# Altium integrated library Lattice ORCA Series 3.IntLib: 93 symbols (part 8 of 14)
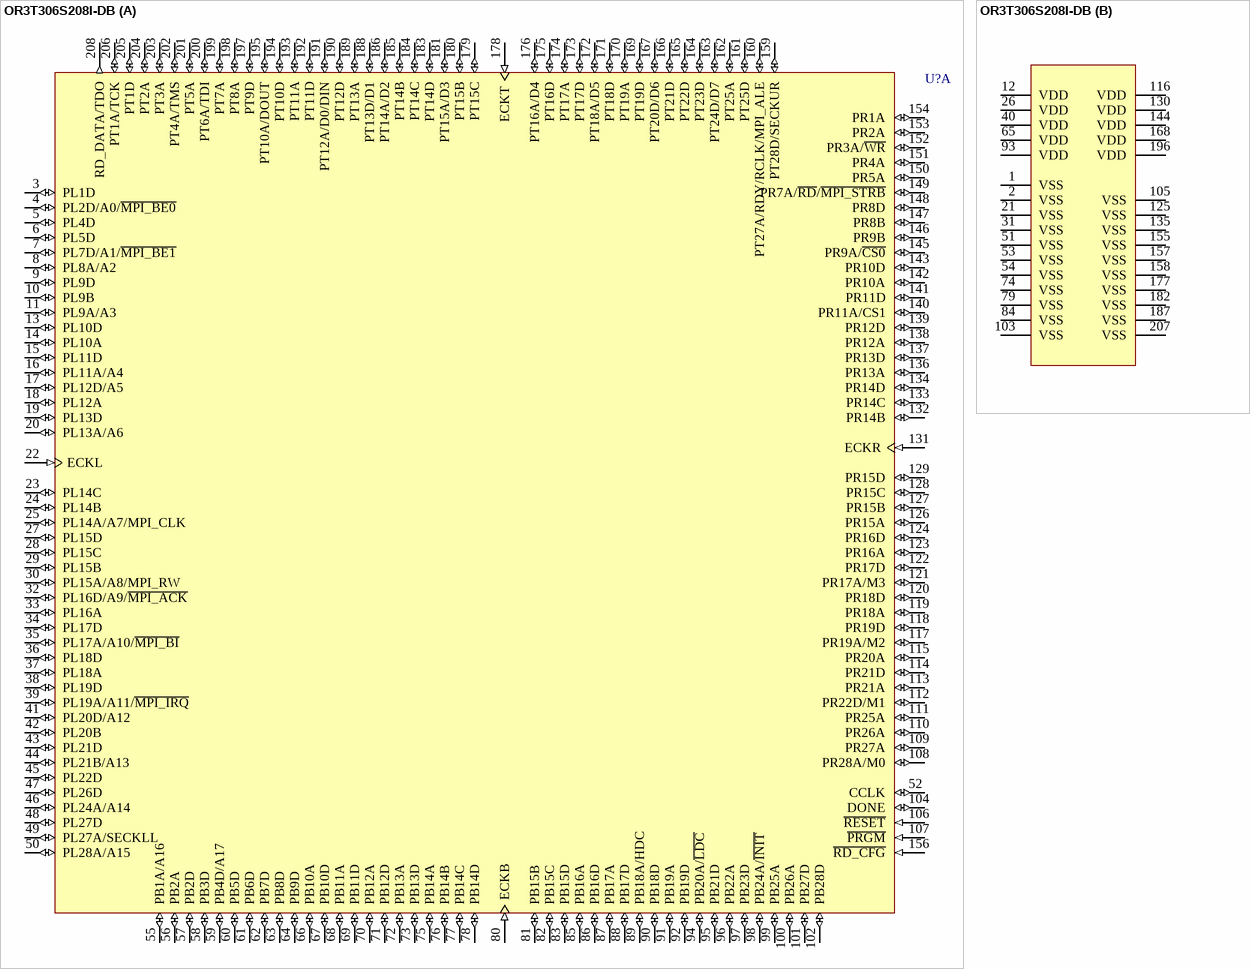
[diagram p143: symbol OR3T306S208I-DB]

## OR3T306S208I-DB
designator U?
ORCA Series 3T FPGA: 3.3 V, Industrial Grade, 228 I/Os.; Published: 21-May-2003; LatestRevisionDate: 13-Apr-2006; LatestRevisionNote: IPC-7351 Footprint Added.; DatasheetVersion: Dec-2002; PackageVersion: pkg_32, Aug-2005; PackageReference: PQFP208; Publisher: Altium Limited; PackageDescription: 208-Pin Plastic Quad Flat Pack (PQFP208); Code_JEDEC: MO-143-FAI; ComponentLink1Description: Manufacturer Link; ComponentLink1URL: http://www.latticesemi.com/products/fpga/orca/orca3/index.cfm; ComponentLink2Description: Datasheet; ComponentLink2URL: http://www.latticesemi.com/account/_download.cfm?AMID=3974; ComponentLink3Description: Lattice Login; ComponentLink3URL: http://www.latticesemi.com/account/login.cfm
footprint PQFP208_N (Shrink QFP, 208-Leads, Body 28x28mm, Pitch 0.5mm, IPC Medium Density)
footprint PQFP208_L (Shrink QFP, 208-Leads, Body 28x28mm, Pitch 0.5mm, IPC High Density)
footprint PQFP208_M (Shrink QFP, 208-Leads, Body 28x28mm, Pitch 0.5mm, IPC Low Density)
3D model OR3T30-PQFP208 (208-Pin Plastic Quad Flat Pack (PQFP208))
part A pins: 3 PL1D (io), 4 PL2D/A0/~{MPI_BE0} (io), 5 PL4D (io), 6 PL5D (io), 7 PL7D/A1/~{MPI_BE1} (io), 8 PL8A/A2 (io), 9 PL9D (io), 10 PL9B (io), 11 PL9A/A3 (io), 13 PL10D (io), 14 PL10A (io), 15 PL11D (io), 16 PL11A/A4 (io), 17 PL12D/A5 (io), 18 PL12A (io), 19 PL13D (io), 20 PL13A/A6 (io), 22 ECKL (in), 23 PL14C (io), 24 PL14B (io), 25 PL14A/A7/MPI_CLK (io), 27 PL15D (io), 28 PL15C (io), 29 PL15B (io), 30 PL15A/A8/MPI_RW (io), 32 PL16D/A9/~{MPI_ACK} (io), 33 PL16A (io), 34 PL17D (io), 35 PL17A/A10/~{MPI_BI} (io), 36 PL18D (io), 37 PL18A (io), 38 PL19D (io), 39 PL19A/A11/~{MPI_IRQ} (io), 41 PL20D/A12 (io), 42 PL20B (io), 43 PL21D (io), 44 PL21B/A13 (io), 45 PL22D (io), 46 PL24A/A14 (io), 47 PL26D (io), 48 PL27D (io), 49 PL27A/SECKLL (io), 50 PL28A/A15 (io), 52 CCLK (io), 55 PB1A/A16 (io), 56 PB2A (io), 57 PB2D (io), 58 PB3D (io), 59 PB4D/A17 (io), 60 PB5D (io), 61 PB6D (io), 62 PB7D (io), 63 PB8D (io), 64 PB9D (io), 66 PB10A (io), 67 PB10D (io), 68 PB11A (io), 69 PB11D (io), 70 PB12A (io), 71 PB12D (io), 72 PB13A (io), 73 PB13D (io), 75 PB14A (io), 76 PB14B (io), 77 PB14C (io), 78 PB14D (io), 80 ECKB (in), 81 PB15B (io), 82 PB15C (io), 83 PB15D (io), 85 PB16A (io), 86 PB16D (io), 87 PB17A (io), 88 PB17D (io), 89 PB18A/HDC (io), 90 PB18D (io), 91 PB19A (io), 92 PB19D (io), 94 PB20A/~{LDC} (io), 95 PB21D (io), 96 PB22A (io), 97 PB23D (io), 98 PB24A/~{INIT} (io), 99 PB25A (io), 100 PB26A (io), 101 PB27D (io), 102 PB28D (io), 104 DONE (io), 106 ~{RESET} (in), 107 ~{PRGM} (in), 108 PR28A/M0 (io), 109 PR27A (io), 110 PR26A (io), 111 PR25A (io), 112 PR22D/M1 (io), 113 PR21A (io), 114 PR21D (io), 115 PR20A (io), 117 PR19A/M2 (io), 118 PR19D (io), 119 PR18A (io), 120 PR18D (io), 121 PR17A/M3 (io), 122 PR17D (io), 123 PR16A (io), 124 PR16D (io), 126 PR15A (io), 127 PR15B (io), 128 PR15C (io), 129 PR15D (io), 131 ECKR (in), 132 PR14B (io), 133 PR14C (io), 134 PR14D (io), 136 PR13A (io), 137 PR13D (io), 138 PR12A (io), 139 PR12D (io), 140 PR11A/CS1 (io), 141 PR11D (io), 142 PR10A (io), 143 PR10D (io), 145 PR9A/~{CS0} (io), 146 PR9B (io), 147 PR8B (io), 148 PR8D (io), 149 PR7A/~{RD}/~{MPI_STRB} (io), 150 PR5A (io), 151 PR4A (io), 152 PR3A/~{WR} (io), 153 PR2A (io), 154 PR1A (io), 156 ~{RD_CFG} (in), 159 PT28D/SECKUR (io), 160 PT27A/RDY/RCLK/MPI_ALE (io), 161 PT25D (io), 162 PT25A (io), 163 PT24D/D7 (io), 164 PT23D (io), 165 PT22D (io), 166 PT21D (io), 167 PT20D/D6 (io), 169 PT19D (io), 170 PT19A (io), 171 PT18D (io), 172 PT18A/D5 (io), 173 PT17D (io), 174 PT17A (io), 175 PT16D (io), 176 PT16A/D4 (io), 178 ECKT (in), 179 PT15C (io), 180 PT15B (io), 181 PT15A/D3 (io), 183 PT14D (io), 184 PT14C (io), 185 PT14B (io), 186 PT14A/D2 (io), 188 PT13D/D1 (io), 189 PT13A (io), 190 PT12D (io), 191 PT12A/D0/DIN (io), 192 PT11D (io), 193 PT11A (io), 194 PT10D (io), 195 PT10A/DOUT (io), 197 PT9D (io), 198 PT8A (io), 199 PT7A (io), 200 PT6A/TDI (io), 201 PT5A (io), 202 PT4A/TMS (io), 203 PT3A (io), 204 PT2A (io), 205 PT1D (io), 206 PT1A/TCK (io), 208 RD_DATA/TDO (out)
part B pins: 1 VSS (power), 2 VSS (power), 12 VDD (power), 21 VSS (power), 26 VDD (power), 31 VSS (power), 40 VDD (power), 51 VSS (power), 53 VSS (power), 54 VSS (power), 65 VDD (power), 74 VSS (power), 79 VSS (power), 84 VSS (power), 93 VDD (power), 103 VSS (power), 105 VSS (power), 116 VDD (power), 125 VSS (power), 130 VDD (power), 135 VSS (power), 144 VDD (power), 155 VSS (power), 157 VSS (power), 158 VSS (power), 168 VDD (power), 177 VSS (power), 182 VSS (power), 187 VSS (power), 196 VDD (power), 207 VSS (power)

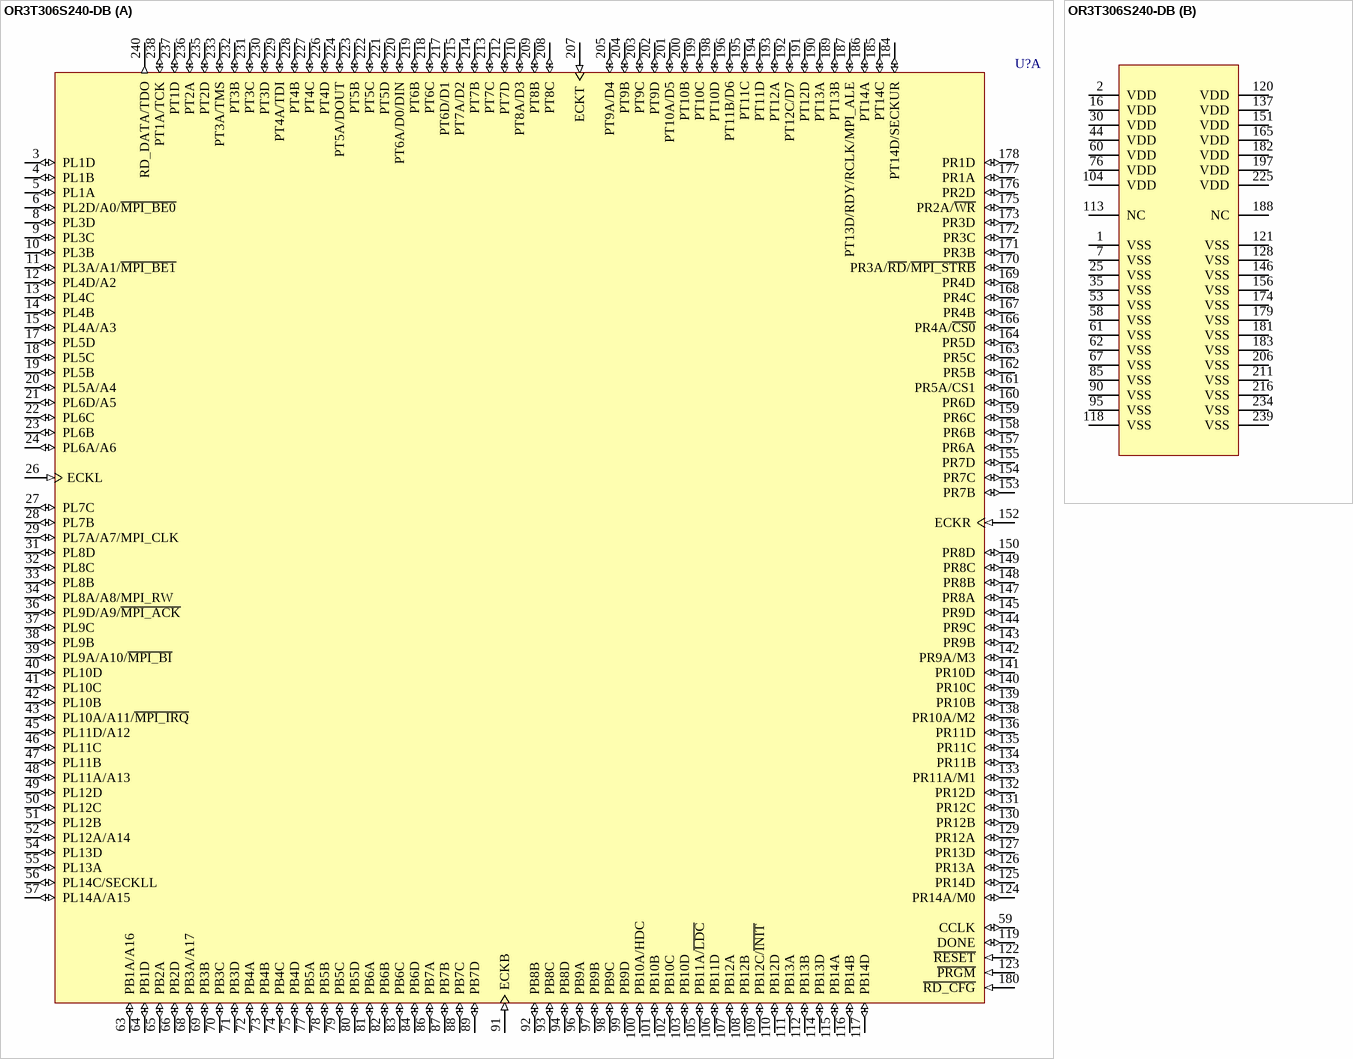
[diagram p77: symbol OR3T306S240-DB]

## OR3T306S240-DB
designator U?
ORCA Series 3T FPGA: 3.3 V, Commercial Grade, 228 I/Os.; Published: 21-May-2003; LatestRevisionDate: 13-Apr-2006; LatestRevisionNote: IPC-7351 Footprint Added.; DatasheetVersion: Dec-2002; PackageVersion: pkg_32, Aug-2005; PackageReference: PQFP240; Publisher: Altium Limited; PackageDescription: 240-Pin Shrink Quad Flat Pack 0.5 mm Pitch; ComponentLink1Description: Manufacturer Link; ComponentLink1URL: http://www.latticesemi.com/products/fpga/orca/orca3/index.cfm; ComponentLink2Description: Datasheet; ComponentLink2URL: http://www.latticesemi.com/account/_download.cfm?AMID=3974; ComponentLink3Description: Lattice Login; ComponentLink3URL: http://www.latticesemi.com/account/login.cfm
footprint PQFP240_N (Shrink QFP, 240-Leads, Body 32x32mm, Pitch 0.5mm, IPC Medium Density)
footprint PQFP240_L (Shrink QFP, 240-Leads, Body 32x32mm, Pitch 0.5mm, IPC High Density)
footprint PQFP240_M (Shrink QFP, 240-Leads, Body 32x32mm, Pitch 0.5mm, IPC Low Density)
3D model OR3T30-PQFP240 (240-Pin Shrink Quad Flat Pack 0.5 mm Pitch)
part A pins: 3 PL1D (io), 4 PL1B (io), 5 PL1A (io), 6 PL2D/A0/~{MPI_BE0} (io), 8 PL3D (io), 9 PL3C (io), 10 PL3B (io), 11 PL3A/A1/~{MPI_BE1} (io), 12 PL4D/A2 (io), 13 PL4C (io), 14 PL4B (io), 15 PL4A/A3 (io), 17 PL5D (io), 18 PL5C (io), 19 PL5B (io), 20 PL5A/A4 (io), 21 PL6D/A5 (io), 22 PL6C (io), 23 PL6B (io), 24 PL6A/A6 (io), 26 ECKL (in), 27 PL7C (io), 28 PL7B (io), 29 PL7A/A7/MPI_CLK (io), 31 PL8D (io), 32 PL8C (io), 33 PL8B (io), 34 PL8A/A8/MPI_RW (io), 36 PL9D/A9/~{MPI_ACK} (io), 37 PL9C (io), 38 PL9B (io), 39 PL9A/A10/~{MPI_BI} (io), 40 PL10D (io), 41 PL10C (io), 42 PL10B (io), 43 PL10A/A11/~{MPI_IRQ} (io), 45 PL11D/A12 (io), 46 PL11C (io), 47 PL11B (io), 48 PL11A/A13 (io), 49 PL12D (io), 50 PL12C (io), 51 PL12B (io), 52 PL12A/A14 (io), 54 PL13D (io), 55 PL13A (io), 56 PL14C/SECKLL (io), 57 PL14A/A15 (io), 59 CCLK (io), 63 PB1A/A16 (io), 64 PB1D (io), 65 PB2A (io), 66 PB2D (io), 68 PB3A/A17 (io), 69 PB3B (io), 70 PB3C (io), 71 PB3D (io), 72 PB4A (io), 73 PB4B (io), 74 PB4C (io), 75 PB4D (io), 77 PB5A (io), 78 PB5B (io), 79 PB5C (io), 80 PB5D (io), 81 PB6A (io), 82 PB6B (io), 83 PB6C (io), 84 PB6D (io), 86 PB7A (io), 87 PB7B (io), 88 PB7C (io), 89 PB7D (io), 91 ECKB (in), 92 PB8B (io), 93 PB8C (io), 94 PB8D (io), 96 PB9A (io), 97 PB9B (io), 98 PB9C (io), 99 PB9D (io), 100 PB10A/HDC (io), 101 PB10B (io), 102 PB10C (io), 103 PB10D (io), 105 PB11A/~{LDC} (io), 106 PB11D (io), 107 PB12A (io), 108 PB12B (io), 109 PB12C/~{INIT} (io), 110 PB12D (io), 111 PB13A (io), 112 PB13B (io), 114 PB13D (io), 115 PB14A (io), 116 PB14B (io), 117 PB14D (io), 119 DONE (io), 122 ~{RESET} (in), 123 ~{PRGM} (in), 124 PR14A/M0 (io), 125 PR14D (io), 126 PR13A (io), 127 PR13D (io), 129 PR12A (io), 130 PR12B (io), 131 PR12C (io), 132 PR12D (io), 133 PR11A/M1 (io), 134 PR11B (io), 135 PR11C (io), 136 PR11D (io), 138 PR10A/M2 (io), 139 PR10B (io), 140 PR10C (io), 141 PR10D (io), 142 PR9A/M3 (io), 143 PR9B (io), 144 PR9C (io), 145 PR9D (io), 147 PR8A (io), 148 PR8B (io), 149 PR8C (io), 150 PR8D (io), 152 ECKR (in), 153 PR7B (io), 154 PR7C (io), 155 PR7D (io), 157 PR6A (io), 158 PR6B (io), 159 PR6C (io), 160 PR6D (io), 161 PR5A/CS1 (io), 162 PR5B (io), 163 PR5C (io), 164 PR5D (io), 166 PR4A/~{CS0} (io), 167 PR4B (io), 168 PR4C (io), 169 PR4D (io), 170 PR3A/~{RD}/~{MPI_STRB} (io), 171 PR3B (io), 172 PR3C (io), 173 PR3D (io), 175 PR2A/~{WR} (io), 176 PR2D (io), 177 PR1A (io), 178 PR1D (io), 180 ~{RD_CFG} (in), 184 PT14D/SECKUR (io), 185 PT14C (io), 186 PT14A (io), 187 PT13D/RDY/RCLK/MPI_ALE (io), 189 PT13B (io), 190 PT13A (io), 191 PT12D (io), 192 PT12C/D7 (io), 193 PT12A (io), 194 PT11D (io), 195 PT11C (io), 196 PT11B/D6 (io), 198 PT10D (io), 199 PT10C (io), 200 PT10B (io), 201 PT10A/D5 (io), 202 PT9D (io), 203 PT9C (io), 204 PT9B (io), 205 PT9A/D4 (io), 207 ECKT (in), 208 PT8C (io), 209 PT8B (io), 210 PT8A/D3 (io), 212 PT7D (io), 213 PT7C (io), 214 PT7B (io), 215 PT7A/D2 (io), 217 PT6D/D1 (io), 218 PT6C (io), 219 PT6B (io), 220 PT6A/D0/DIN (io), 221 PT5D (io), 222 PT5C (io), 223 PT5B (io), 224 PT5A/DOUT (io), 226 PT4D (io), 227 PT4C (io), 228 PT4B (io), 229 PT4A/TDI (io), 230 PT3D (io), 231 PT3C (io), 232 PT3B (io), 233 PT3A/TMS (io), 235 PT2D (io), 236 PT2A (io), 237 PT1D (io), 238 PT1A/TCK (io), 240 RD_DATA/TDO (out)
part B pins: 1 VSS (power), 2 VDD (power), 7 VSS (power), 16 VDD (power), 25 VSS (power), 30 VDD (power), 35 VSS (power), 44 VDD (power), 53 VSS (power), 58 VSS (power), 60 VDD (power), 61 VSS (power), 62 VSS (power), 67 VSS (power), 76 VDD (power), 85 VSS (power), 90 VSS (power), 95 VSS (power), 104 VDD (power), 113 NC, 118 VSS (power), 120 VDD (power), 121 VSS (power), 128 VSS (power), 137 VDD (power), 146 VSS (power), 151 VDD (power), 156 VSS (power), 165 VDD (power), 174 VSS (power), 179 VSS (power), 181 VSS (power), 182 VDD (power), 183 VSS (power), 188 NC, 197 VDD (power), 206 VSS (power), 211 VSS (power), 216 VSS (power), 225 VDD (power), 234 VSS (power), 239 VSS (power)

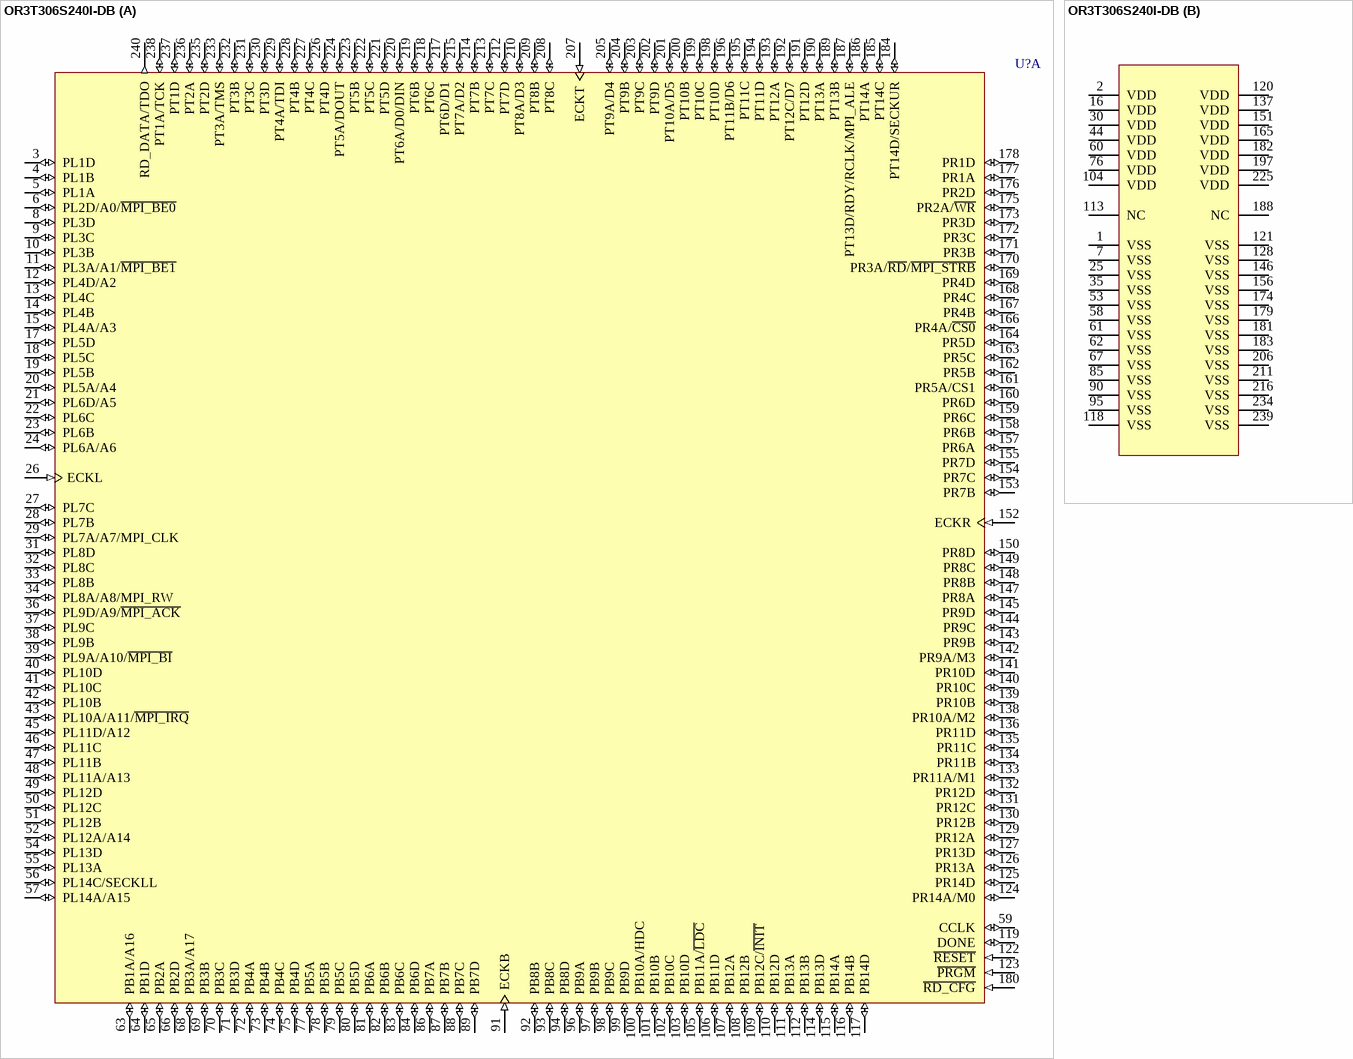
[diagram p78: symbol OR3T306S240I-DB]

## OR3T306S240I-DB
designator U?
ORCA Series 3T FPGA: 3.3 V, Industrial Grade, 228 I/Os.; Published: 21-May-2003; LatestRevisionDate: 13-Apr-2006; LatestRevisionNote: IPC-7351 Footprint Added.; DatasheetVersion: Dec-2002; PackageVersion: pkg_32, Aug-2005; PackageReference: PQFP240; Publisher: Altium Limited; PackageDescription: 240-Pin Shrink Quad Flat Pack 0.5 mm Pitch; ComponentLink1Description: Manufacturer Link; ComponentLink1URL: http://www.latticesemi.com/products/fpga/orca/orca3/index.cfm; ComponentLink2Description: Datasheet; ComponentLink2URL: http://www.latticesemi.com/account/_download.cfm?AMID=3974; ComponentLink3Description: Lattice Login; ComponentLink3URL: http://www.latticesemi.com/account/login.cfm
footprint PQFP240_N (Shrink QFP, 240-Leads, Body 32x32mm, Pitch 0.5mm, IPC Medium Density)
footprint PQFP240_L (Shrink QFP, 240-Leads, Body 32x32mm, Pitch 0.5mm, IPC High Density)
footprint PQFP240_M (Shrink QFP, 240-Leads, Body 32x32mm, Pitch 0.5mm, IPC Low Density)
3D model OR3T30-PQFP240 (240-Pin Shrink Quad Flat Pack 0.5 mm Pitch)
part A pins: 3 PL1D (io), 4 PL1B (io), 5 PL1A (io), 6 PL2D/A0/~{MPI_BE0} (io), 8 PL3D (io), 9 PL3C (io), 10 PL3B (io), 11 PL3A/A1/~{MPI_BE1} (io), 12 PL4D/A2 (io), 13 PL4C (io), 14 PL4B (io), 15 PL4A/A3 (io), 17 PL5D (io), 18 PL5C (io), 19 PL5B (io), 20 PL5A/A4 (io), 21 PL6D/A5 (io), 22 PL6C (io), 23 PL6B (io), 24 PL6A/A6 (io), 26 ECKL (in), 27 PL7C (io), 28 PL7B (io), 29 PL7A/A7/MPI_CLK (io), 31 PL8D (io), 32 PL8C (io), 33 PL8B (io), 34 PL8A/A8/MPI_RW (io), 36 PL9D/A9/~{MPI_ACK} (io), 37 PL9C (io), 38 PL9B (io), 39 PL9A/A10/~{MPI_BI} (io), 40 PL10D (io), 41 PL10C (io), 42 PL10B (io), 43 PL10A/A11/~{MPI_IRQ} (io), 45 PL11D/A12 (io), 46 PL11C (io), 47 PL11B (io), 48 PL11A/A13 (io), 49 PL12D (io), 50 PL12C (io), 51 PL12B (io), 52 PL12A/A14 (io), 54 PL13D (io), 55 PL13A (io), 56 PL14C/SECKLL (io), 57 PL14A/A15 (io), 59 CCLK (io), 63 PB1A/A16 (io), 64 PB1D (io), 65 PB2A (io), 66 PB2D (io), 68 PB3A/A17 (io), 69 PB3B (io), 70 PB3C (io), 71 PB3D (io), 72 PB4A (io), 73 PB4B (io), 74 PB4C (io), 75 PB4D (io), 77 PB5A (io), 78 PB5B (io), 79 PB5C (io), 80 PB5D (io), 81 PB6A (io), 82 PB6B (io), 83 PB6C (io), 84 PB6D (io), 86 PB7A (io), 87 PB7B (io), 88 PB7C (io), 89 PB7D (io), 91 ECKB (in), 92 PB8B (io), 93 PB8C (io), 94 PB8D (io), 96 PB9A (io), 97 PB9B (io), 98 PB9C (io), 99 PB9D (io), 100 PB10A/HDC (io), 101 PB10B (io), 102 PB10C (io), 103 PB10D (io), 105 PB11A/~{LDC} (io), 106 PB11D (io), 107 PB12A (io), 108 PB12B (io), 109 PB12C/~{INIT} (io), 110 PB12D (io), 111 PB13A (io), 112 PB13B (io), 114 PB13D (io), 115 PB14A (io), 116 PB14B (io), 117 PB14D (io), 119 DONE (io), 122 ~{RESET} (in), 123 ~{PRGM} (in), 124 PR14A/M0 (io), 125 PR14D (io), 126 PR13A (io), 127 PR13D (io), 129 PR12A (io), 130 PR12B (io), 131 PR12C (io), 132 PR12D (io), 133 PR11A/M1 (io), 134 PR11B (io), 135 PR11C (io), 136 PR11D (io), 138 PR10A/M2 (io), 139 PR10B (io), 140 PR10C (io), 141 PR10D (io), 142 PR9A/M3 (io), 143 PR9B (io), 144 PR9C (io), 145 PR9D (io), 147 PR8A (io), 148 PR8B (io), 149 PR8C (io), 150 PR8D (io), 152 ECKR (in), 153 PR7B (io), 154 PR7C (io), 155 PR7D (io), 157 PR6A (io), 158 PR6B (io), 159 PR6C (io), 160 PR6D (io), 161 PR5A/CS1 (io), 162 PR5B (io), 163 PR5C (io), 164 PR5D (io), 166 PR4A/~{CS0} (io), 167 PR4B (io), 168 PR4C (io), 169 PR4D (io), 170 PR3A/~{RD}/~{MPI_STRB} (io), 171 PR3B (io), 172 PR3C (io), 173 PR3D (io), 175 PR2A/~{WR} (io), 176 PR2D (io), 177 PR1A (io), 178 PR1D (io), 180 ~{RD_CFG} (in), 184 PT14D/SECKUR (io), 185 PT14C (io), 186 PT14A (io), 187 PT13D/RDY/RCLK/MPI_ALE (io), 189 PT13B (io), 190 PT13A (io), 191 PT12D (io), 192 PT12C/D7 (io), 193 PT12A (io), 194 PT11D (io), 195 PT11C (io), 196 PT11B/D6 (io), 198 PT10D (io), 199 PT10C (io), 200 PT10B (io), 201 PT10A/D5 (io), 202 PT9D (io), 203 PT9C (io), 204 PT9B (io), 205 PT9A/D4 (io), 207 ECKT (in), 208 PT8C (io), 209 PT8B (io), 210 PT8A/D3 (io), 212 PT7D (io), 213 PT7C (io), 214 PT7B (io), 215 PT7A/D2 (io), 217 PT6D/D1 (io), 218 PT6C (io), 219 PT6B (io), 220 PT6A/D0/DIN (io), 221 PT5D (io), 222 PT5C (io), 223 PT5B (io), 224 PT5A/DOUT (io), 226 PT4D (io), 227 PT4C (io), 228 PT4B (io), 229 PT4A/TDI (io), 230 PT3D (io), 231 PT3C (io), 232 PT3B (io), 233 PT3A/TMS (io), 235 PT2D (io), 236 PT2A (io), 237 PT1D (io), 238 PT1A/TCK (io), 240 RD_DATA/TDO (out)
part B pins: 1 VSS (power), 2 VDD (power), 7 VSS (power), 16 VDD (power), 25 VSS (power), 30 VDD (power), 35 VSS (power), 44 VDD (power), 53 VSS (power), 58 VSS (power), 60 VDD (power), 61 VSS (power), 62 VSS (power), 67 VSS (power), 76 VDD (power), 85 VSS (power), 90 VSS (power), 95 VSS (power), 104 VDD (power), 113 NC, 118 VSS (power), 120 VDD (power), 121 VSS (power), 128 VSS (power), 137 VDD (power), 146 VSS (power), 151 VDD (power), 156 VSS (power), 165 VDD (power), 174 VSS (power), 179 VSS (power), 181 VSS (power), 182 VDD (power), 183 VSS (power), 188 NC, 197 VDD (power), 206 VSS (power), 211 VSS (power), 216 VSS (power), 225 VDD (power), 234 VSS (power), 239 VSS (power)

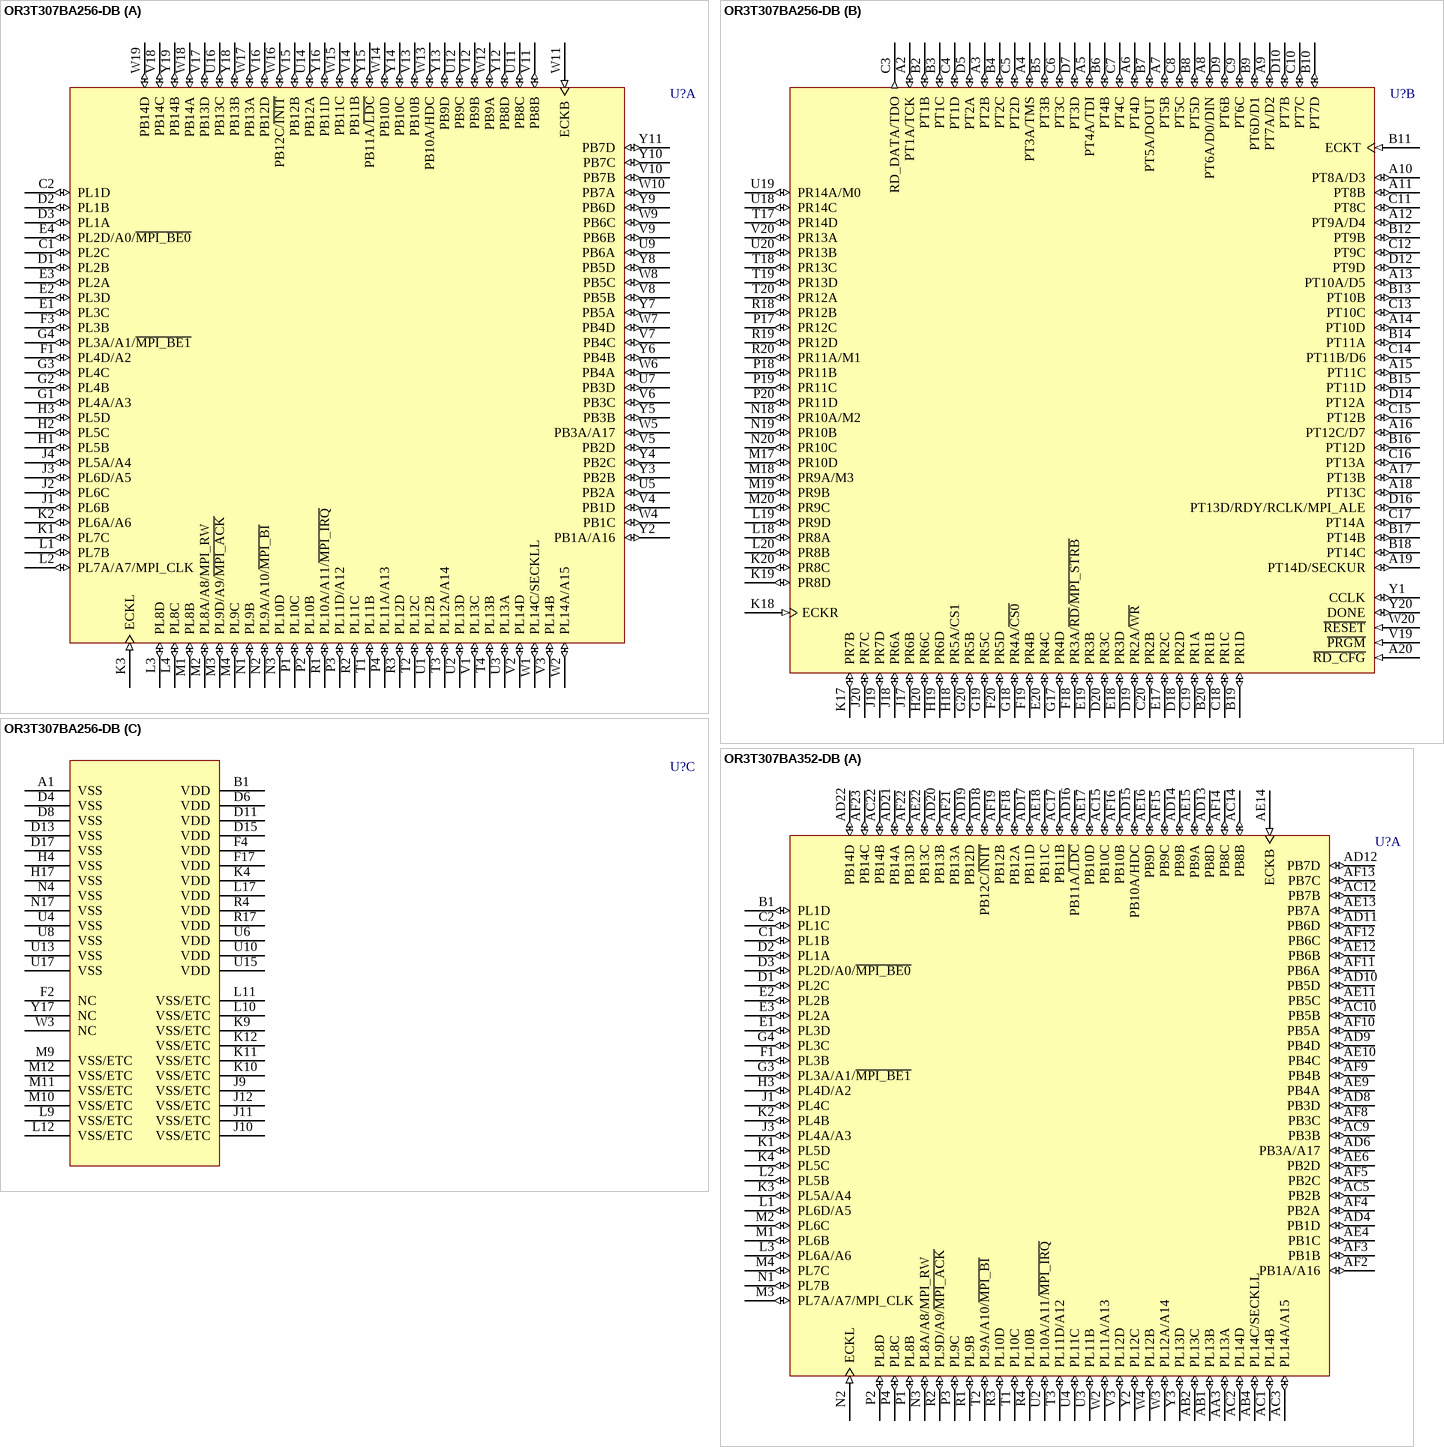
[diagram p79: symbols OR3T307BA256-DB to OR3T307BA352-DB]

## OR3T307BA256-DB
designator U?
ORCA Series 3T FPGA: 3.3 V, Commercial Grade, 228 I/Os.; PinConnectionRecommendation: Ground array of 'VSS-ETC' pins for enhanced thermal capability or leave unconnected.; Published: 21-May-2003; LatestRevisionDate: 13-Apr-2006; LatestRevisionNote: IPC-7351 Footprint Added.; DatasheetVersion: Dec-2002; PackageVersion: pkg_32, Aug-2005; PackageReference: BGA272; Publisher: Altium Limited; PackageDescription: 272-Ball Ball Grid Array (BGA272); ComponentLink1Description: Manufacturer Link; ComponentLink1URL: http://www.latticesemi.com/products/fpga/orca/orca3/index.cfm; ComponentLink2Description: Datasheet; ComponentLink2URL: http://www.latticesemi.com/account/_download.cfm?AMID=3974; ComponentLink3Description: Lattice Login; ComponentLink3URL: http://www.latticesemi.com/account/login.cfm
footprint BGA272 (BGA, 272-Leads, Body 27x27mm, Pitch 1.27mm)
3D model OR3T30-BGA272 (272-Ball Ball Grid Array (BGA272))
part A pins: C1 PL2C (io), C2 PL1D (io), D1 PL2B (io), D2 PL1B (io), D3 PL1A (io), E1 PL3C (io), E2 PL3D (io), E3 PL2A (io), E4 PL2D/A0/~{MPI_BE0} (io), F1 PL4D/A2 (io), F3 PL3B (io), G1 PL4A/A3 (io), G2 PL4B (io), G3 PL4C (io), G4 PL3A/A1/~{MPI_BE1} (io), H1 PL5B (io), H2 PL5C (io), H3 PL5D (io), J1 PL6B (io), J2 PL6C (io), J3 PL6D/A5 (io), J4 PL5A/A4 (io), K1 PL7C (io), K2 PL6A/A6 (io), K3 ECKL (in), L1 PL7B (io), L2 PL7A/A7/MPI_CLK (io), L3 PL8D (io), L4 PL8C (io), M1 PL8B (io), M2 PL8A/A8/MPI_RW (io), M3 PL9D/A9/~{MPI_ACK} (io), M4 PL9C (io), N1 PL9B (io), N2 PL9A/A10/~{MPI_BI} (io), N3 PL10D (io), P1 PL10C (io), P2 PL10B (io), P3 PL11D/A12 (io), P4 PL11A/A13 (io), R1 PL10A/A11/~{MPI_IRQ} (io), R2 PL11C (io), R3 PL12D (io), T1 PL11B (io), T2 PL12C (io), T3 PL12A/A14 (io), T4 PL13B (io), U1 PL12B (io), U2 PL13D (io), U3 PL13A (io), U5 PB2A (io), U7 PB3D (io), U9 PB6A (io), U11 PB8C (io), U12 PB9C (io), U14 PB12A (io), U16 PB13C (io), V1 PL13C (io), V2 PL14D (io), V3 PL14B (io), V4 PB1D (io), V5 PB2D (io), V6 PB3C (io), V7 PB4C (io), V8 PB5B (io), V9 PB6B (io), V10 PB7B (io), V11 PB8B (io), V12 PB9B (io), V13 PB10B (io), V14 PB11B (io), V15 PB12B (io), V16 PB12D (io), V17 PB13D (io), V18 PB14C (io), W1 PL14C/SECKLL (io), W2 PL14A/A15 (io), W4 PB1C (io), W5 PB3A/A17 (io), W6 PB4A (io), W7 PB4D (io), W8 PB5C (io), W9 PB6C (io), W10 PB7A (io), W11 ECKB (in), W12 PB9A (io), W13 PB10A/HDC (io), W14 PB10D (io), W15 PB11C (io), W16 PB12C/~{INIT} (io), W17 PB13A (io), W18 PB14A (io), W19 PB14D (io), Y2 PB1A/A16 (io), Y3 PB2B (io), Y4 PB2C (io), Y5 PB3B (io), Y6 PB4B (io), Y7 PB5A (io), Y8 PB5D (io), Y9 PB6D (io), Y10 PB7C (io), Y11 PB7D (io), Y12 PB8D (io), Y13 PB9D (io), Y14 PB10C (io), Y15 PB11A/~{LDC} (io), Y16 PB11D (io), Y18 PB13B (io), Y19 PB14B (io)
part B pins: A2 PT1A/TCK (io), A3 PT2B (io), A4 PT3A/TMS (io), A5 PT4A/TDI (io), A6 PT4D (io), A7 PT5B (io), A8 PT6A/D0/DIN (io), A9 PT7A/D2 (io), A10 PT8A/D3 (io), A11 PT8B (io), A12 PT9A/D4 (io), A13 PT10A/D5 (io), A14 PT10D (io), A15 PT11C (io), A16 PT12C/D7 (io), A17 PT13B (io), A18 PT13C (io), A19 PT14D/SECKUR (io), A20 ~{RD_CFG} (in), B2 PT1B (io), B3 PT1C (io), B4 PT2C (io), B5 PT3B (io), B6 PT4B (io), B7 PT5A/DOUT (io), B8 PT5D (io), B9 PT6D/D1 (io), B10 PT7D (io), B11 ECKT (in), B12 PT9B (io), B13 PT10B (io), B14 PT11A (io), B15 PT11D (io), B16 PT12D (io), B17 PT14B (io), B18 PT14C (io), B19 PR1D (io), B20 PR1B (io), C3 RD_DATA/TDO (out), C4 PT1D (io), C5 PT2D (io), C6 PT3C (io), C7 PT4C (io), C8 PT5C (io), C9 PT6C (io), C10 PT7C (io), C11 PT8C (io), C12 PT9C (io), C13 PT10C (io), C14 PT11B/D6 (io), C15 PT12B (io), C16 PT13A (io), C17 PT14A (io), C18 PR1C (io), C19 PR1A (io), C20 PR2B (io), D5 PT2A (io), D7 PT3D (io), D9 PT6B (io), D10 PT7B (io), D12 PT9D (io), D14 PT12A (io), D16 PT13D/RDY/RCLK/MPI_ALE (io), D18 PR2D (io), D19 PR2A/~{WR} (io), D20 PR3C (io), E17 PR2C (io), E18 PR3D (io), E19 PR3B (io), E20 PR4C (io), F18 PR3A/~{RD}/~{MPI_STRB} (io), F19 PR4B (io), F20 PR5D (io), G17 PR4D (io), G18 PR4A/~{CS0} (io), G19 PR5C (io), G20 PR5B (io), H18 PR5A/CS1 (io), H19 PR6D (io), H20 PR6C (io), J17 PR6B (io), J18 PR6A (io), J19 PR7D (io), J20 PR7C (io), K17 PR7B (io), K18 ECKR (in), K19 PR8D (io), K20 PR8C (io), L18 PR8A (io), L19 PR9D (io), L20 PR8B (io), M17 PR10D (io), M18 PR9A/M3 (io), M19 PR9B (io), M20 PR9C (io), N18 PR10A/M2 (io), N19 PR10B (io), N20 PR10C (io), P17 PR12C (io), P18 PR11B (io), P19 PR11C (io), P20 PR11D (io), R18 PR12B (io), R19 PR12D (io), R20 PR11A/M1 (io), T17 PR14D (io), T18 PR13C (io), T19 PR13D (io), T20 PR12A (io), U18 PR14C (io), U19 PR14A/M0 (io), U20 PR13B (io), V19 ~{PRGM} (in), V20 PR13A (io), W20 ~{RESET} (in), Y1 CCLK (io), Y20 DONE (io)
part C pins: A1 VSS (power), B1 VDD (power), D4 VSS (power), D6 VDD (power), D8 VSS (power), D11 VDD (power), D13 VSS (power), D15 VDD (power), D17 VSS (power), F2 NC, F4 VDD (power), F17 VDD (power), H4 VSS (power), H17 VSS (power), J9 VSS/ETC (power), J10 VSS/ETC (power), J11 VSS/ETC (power), J12 VSS/ETC (power), K4 VDD (power), K9 VSS/ETC (power), K10 VSS/ETC (power), K11 VSS/ETC (power), K12 VSS/ETC (power), L9 VSS/ETC (power), L10 VSS/ETC (power), L11 VSS/ETC (power), L12 VSS/ETC (power), L17 VDD (power), M9 VSS/ETC (power), M10 VSS/ETC (power), M11 VSS/ETC (power), M12 VSS/ETC (power), N4 VSS (power), N17 VSS (power), R4 VDD (power), R17 VDD (power), U4 VSS (power), U6 VDD (power), U8 VSS (power), U10 VDD (power), U13 VSS (power), U15 VDD (power), U17 VSS (power), W3 NC, Y17 NC

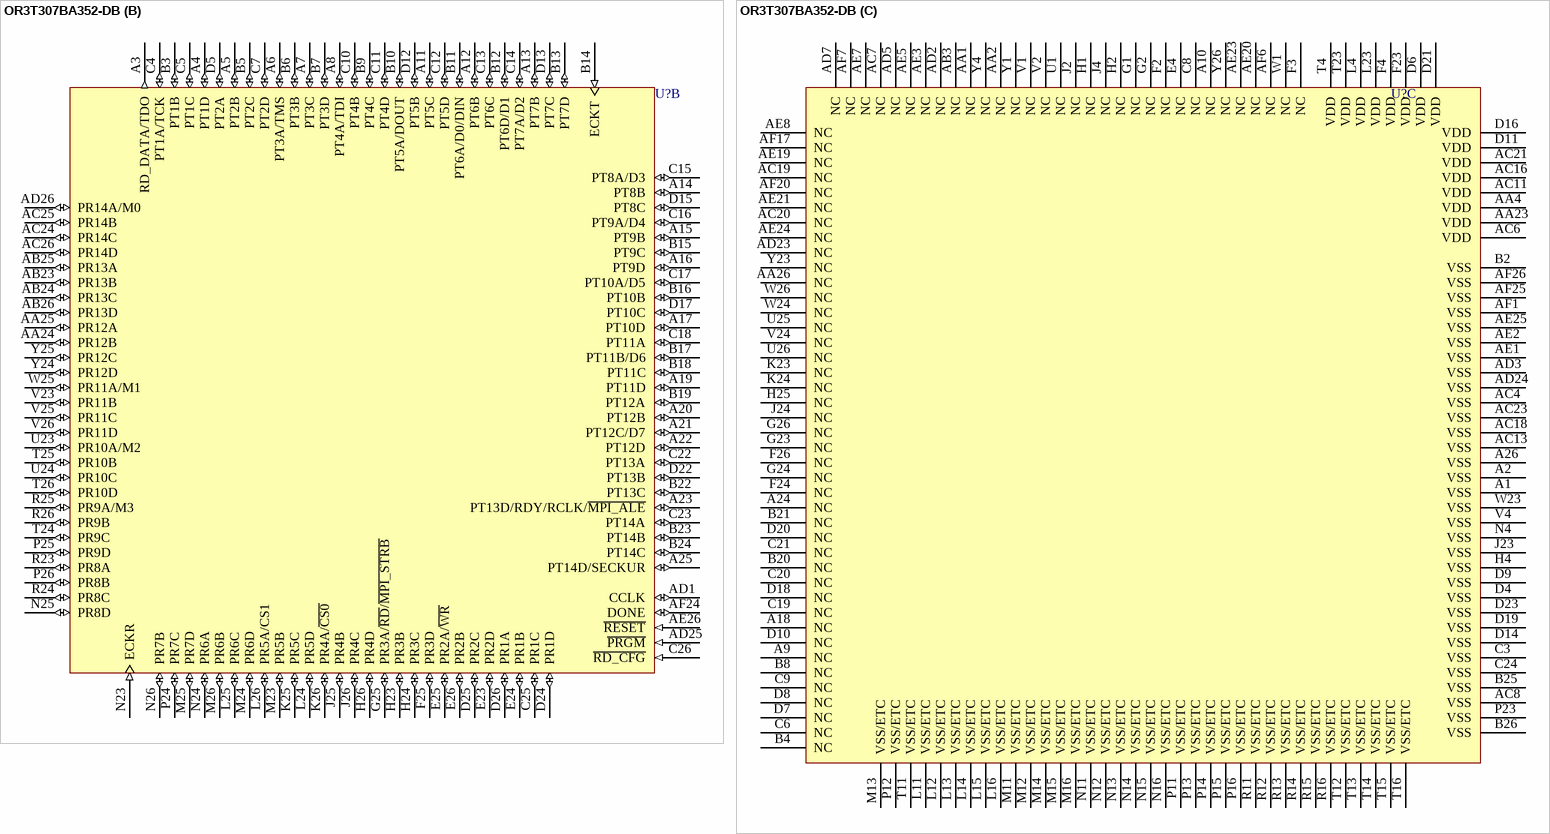
[diagram p80: symbol OR3T307BA352-DB]

## OR3T307BA352-DB
designator U?
ORCA Series 3T FPGA: 3.3 V, Commercial Grade, 228 I/Os.; PinConnectionRecommendation: Ground array of 'VSS-ETC' pins for enhanced thermal capability or leave unconnected.; Published: 21-May-2003; LatestRevisionDate: 13-Apr-2006; LatestRevisionNote: IPC-7351 Footprint Added.; DatasheetVersion: Dec-2002; PackageVersion: pkg_32, Aug-2005; PackageReference: BGA388; Publisher: Altium Limited; PackageDescription: 388-Ball Ball Grid Array (BGA388); ComponentLink1Description: Manufacturer Link; ComponentLink1URL: http://www.latticesemi.com/products/fpga/orca/orca3/index.cfm; ComponentLink2Description: Datasheet; ComponentLink2URL: http://www.latticesemi.com/account/_download.cfm?AMID=3974; ComponentLink3Description: Lattice Login; ComponentLink3URL: http://www.latticesemi.com/account/login.cfm
footprint BGA388 (BGA, 388-Leads, Body 35x35mm, Pitch 1.27mm)
3D model OR3T30-BGA388 (388-Ball Ball Grid Array (BGA388))
part A pins: AA3 PL13A (io), AB1 PL13B (io), AB2 PL13C (io), AB4 PL14C/SECKLL (io), AC1 PL14B (io), AC2 PL14D (io), AC3 PL14A/A15 (io), AC5 PB2B (io), AC9 PB3B (io), AC10 PB5B (io), AC12 PB7B (io), AC14 PB8B (io), AC15 PB10C (io), AC17 PB11B (io), AC22 PB14B (io), AD4 PB1D (io), AD6 PB3A/A17 (io), AD8 PB3D (io), AD9 PB4D (io), AD10 PB5D (io), AD11 PB6D (io), AD12 PB7D (io), AD13 PB8D (io), AD14 PB9B (io), AD15 PB10A/HDC (io), AD16 PB11A/~{LDC} (io), AD17 PB11D (io), AD18 PB12C/~{INIT} (io), AD19 PB12D (io), AD20 PB13B (io), AD21 PB14A (io), AD22 PB14D (io), AE4 PB1C (io), AE6 PB2D (io), AE9 PB4A (io), AE10 PB4C (io), AE11 PB5C (io), AE12 PB6B (io), AE13 PB7A (io), AE14 ECKB (in), AE15 PB9A (io), AE16 PB9D (io), AE17 PB10D (io), AE18 PB11C (io), AE22 PB13C (io), AF2 PB1A/A16 (io), AF3 PB1B (io), AF4 PB2A (io), AF5 PB2C (io), AF8 PB3C (io), AF9 PB4B (io), AF10 PB5A (io), AF11 PB6A (io), AF12 PB6C (io), AF13 PB7C (io), AF14 PB8C (io), AF15 PB9C (io), AF16 PB10B (io), AF18 PB12A (io), AF19 PB12B (io), AF21 PB13A (io), AF22 PB13D (io), AF23 PB14C (io), B1 PL1D (io), C1 PL1B (io), C2 PL1C (io), D1 PL2C (io), D2 PL1A (io), D3 PL2D/A0/~{MPI_BE0} (io), E1 PL3D (io), E2 PL2B (io), E3 PL2A (io), F1 PL3B (io), G3 PL3A/A1/~{MPI_BE1} (io), G4 PL3C (io), H3 PL4D/A2 (io), J1 PL4C (io), J3 PL4A/A3 (io), K1 PL5D (io), K2 PL4B (io), K3 PL5A/A4 (io), K4 PL5C (io), L1 PL6D/A5 (io), L2 PL5B (io), L3 PL6A/A6 (io), M1 PL6B (io), M2 PL6C (io), M3 PL7A/A7/MPI_CLK (io), M4 PL7C (io), N1 PL7B (io), N2 ECKL (in), N3 PL8A/A8/MPI_RW (io), P1 PL8B (io), P2 PL8D (io), P3 PL9C (io), P4 PL8C (io), R1 PL9B (io), R2 PL9D/A9/~{MPI_ACK} (io), R3 PL10D (io), R4 PL10B (io), T1 PL10C (io), T2 PL9A/A10/~{MPI_BI} (io), T3 PL11D/A12 (io), U2 PL10A/A11/~{MPI_IRQ} (io), U3 PL11B (io), U4 PL11C (io), V3 PL12D (io), W2 PL11A/A13 (io), W3 PL12A/A14 (io), W4 PL12B (io), Y2 PL12C (io), Y3 PL13D (io)
part B pins: A3 RD_DATA/TDO (out), A4 PT1D (io), A5 PT2B (io), A6 PT3A/TMS (io), A7 PT3C (io), A8 PT4A/TDI (io), A11 PT5C (io), A12 PT6B (io), A13 PT7B (io), A14 PT8B (io), A15 PT9B (io), A16 PT9D (io), A17 PT10D (io), A19 PT11D (io), A20 PT12B (io), A21 PT12C/D7 (io), A22 PT12D (io), A23 PT13D/RDY/RCLK/~{MPI_ALE} (io), A25 PT14D/SECKUR (io), AA24 PR12B (io), AA25 PR12A (io), AB23 PR13B (io), AB24 PR13C (io), AB25 PR13A (io), AB26 PR13D (io), AC24 PR14C (io), AC25 PR14B (io), AC26 PR14D (io), AD1 CCLK (io), AD25 ~{PRGM} (in), AD26 PR14A/M0 (io), AE26 ~{RESET} (in), AF24 DONE (io), B3 PT1B (io), B5 PT2C (io), B6 PT3B (io), B7 PT3D (io), B9 PT4C (io), B10 PT5A/DOUT (io), B11 PT6A/D0/DIN (io), B12 PT6D/D1 (io), B13 PT7D (io), B14 ECKT (in), B15 PT9C (io), B16 PT10B (io), B17 PT11B/D6 (io), B18 PT11C (io), B19 PT12A (io), B22 PT13C (io), B23 PT14B (io), B24 PT14C (io), C4 PT1A/TCK (io), C5 PT1C (io), C7 PT2D (io), C10 PT4B (io), C11 PT4D (io), C12 PT5D (io), C13 PT6C (io), C14 PT7A/D2 (io), C15 PT8A/D3 (io), C16 PT9A/D4 (io), C17 PT10A/D5 (io), C18 PT11A (io), C22 PT13A (io), C23 PT14A (io), C25 PR1C (io), C26 ~{RD_CFG} (in), D5 PT2A (io), D12 PT5B (io), D13 PT7C (io), D15 PT8C (io), D17 PT10C (io), D22 PT13B (io), D24 PR1D (io), D25 PR2C (io), D26 PR1A (io), E23 PR2D (io), E24 PR1B (io), E25 PR2A/~{WR} (io), E26 PR2B (io), F25 PR3D (io), G25 PR3A/~{RD}/~{MPI_STRB} (io), H23 PR3B (io), H24 PR3C (io), H26 PR4D (io), J25 PR4B (io), J26 PR4C (io), K25 PR5C (io), K26 PR4A/~{CS0} (io), L24 PR5D (io), L25 PR6C (io), L26 PR5A/CS1 (io), M23 PR5B (io), M24 PR6D (io), M25 PR7D (io), M26 PR6B (io), N23 ECKR (in), N24 PR6A (io), N25 PR8D (io), N26 PR7B (io), P24 PR7C (io), P25 PR9D (io), P26 PR8B (io), R23 PR8A (io), R24 PR8C (io), R25 PR9A/M3 (io), R26 PR9B (io), T24 PR9C (io), T25 PR10B (io), T26 PR10D (io), U23 PR10A/M2 (io), U24 PR10C (io), V23 PR11B (io), V25 PR11C (io), V26 PR11D (io), W25 PR11A/M1 (io), Y24 PR12D (io), Y25 PR12C (io)
part C pins: A1 VSS (power), A2 VSS (power), A9 NC, A10 NC, A18 NC, A24 NC, A26 VSS (power), AA1 NC, AA2 NC, AA4 VDD (power), AA23 VDD (power), AA26 NC, AB3 NC, AC4 VSS (power), AC6 VDD (power), AC7 NC, AC8 VSS (power), AC11 VDD (power), AC13 VSS (power), AC16 VDD (power), AC18 VSS (power), AC19 NC, AC20 NC, AC21 VDD (power), AC23 VSS (power), AD2 NC, AD3 VSS (power), AD5 NC, AD7 NC, AD23 NC, AD24 VSS (power), AE1 VSS (power), AE2 VSS (power), AE3 NC, AE5 NC, AE7 NC, AE8 NC, AE19 NC, AE20 NC, AE21 NC, AE23 NC, AE24 NC, AE25 VSS (power), AF1 VSS (power), AF6 NC, AF7 NC, AF17 NC, AF20 NC, AF25 VSS (power), AF26 VSS (power), B2 VSS (power), B4 NC, B8 NC, B20 NC, B21 NC, B25 VSS (power), B26 VSS (power), C3 VSS (power), C6 NC, C8 NC, C9 NC, C19 NC, C20 NC, C21 NC, C24 VSS (power), D4 VSS (power), D6 VDD (power), D7 NC, D8 NC, D9 VSS (power), D10 NC, D11 VDD (power), D14 VSS (power), D16 VDD (power), D18 NC, D19 VSS (power), D20 NC, D21 VDD (power), D23 VSS (power), E4 NC, F2 NC, F3 NC, F4 VDD (power), F23 VDD (power), F24 NC, F26 NC, G1 NC, G2 NC, G23 NC, G24 NC, G26 NC, H1 NC, H2 NC, H4 VSS (power), H25 NC, J2 NC, J4 NC, J23 VSS (power), J24 NC, K23 NC, K24 NC, L4 VDD (power), L11 VSS/ETC (power), L12 VSS/ETC (power), L13 VSS/ETC (power), L14 VSS/ETC (power), L15 VSS/ETC (power), L16 VSS/ETC (power), L23 VDD (power), M11 VSS/ETC (power), M12 VSS/ETC (power), M13 VSS/ETC (power), M14 VSS/ETC (power), M15 VSS/ETC (power), M16 VSS/ETC (power), N4 VSS (power), N11 VSS/ETC (power), N12 VSS/ETC (power), N13 VSS/ETC (power), N14 VSS/ETC (power), N15 VSS/ETC (power), N16 VSS/ETC (power), P11 VSS/ETC (power), P12 VSS/ETC (power), P13 VSS/ETC (power), P14 VSS/ETC (power), P15 VSS/ETC (power), P16 VSS/ETC (power), P23 VSS (power), R11 VSS/ETC (power), R12 VSS/ETC (power), R13 VSS/ETC (power), R14 VSS/ETC (power), R15 VSS/ETC (power), R16 VSS/ETC (power), T4 VDD (power), T11 VSS/ETC (power), T12 VSS/ETC (power), T13 VSS/ETC (power), T14 VSS/ETC (power), T15 VSS/ETC (power), T16 VSS/ETC (power), T23 VDD (power), U1 NC, U25 NC, U26 NC, V1 NC, V2 NC, V4 VSS (power), V24 NC, W1 NC, W23 VSS (power), W24 NC, W26 NC, Y1 NC, Y4 NC, Y23 NC, Y26 NC

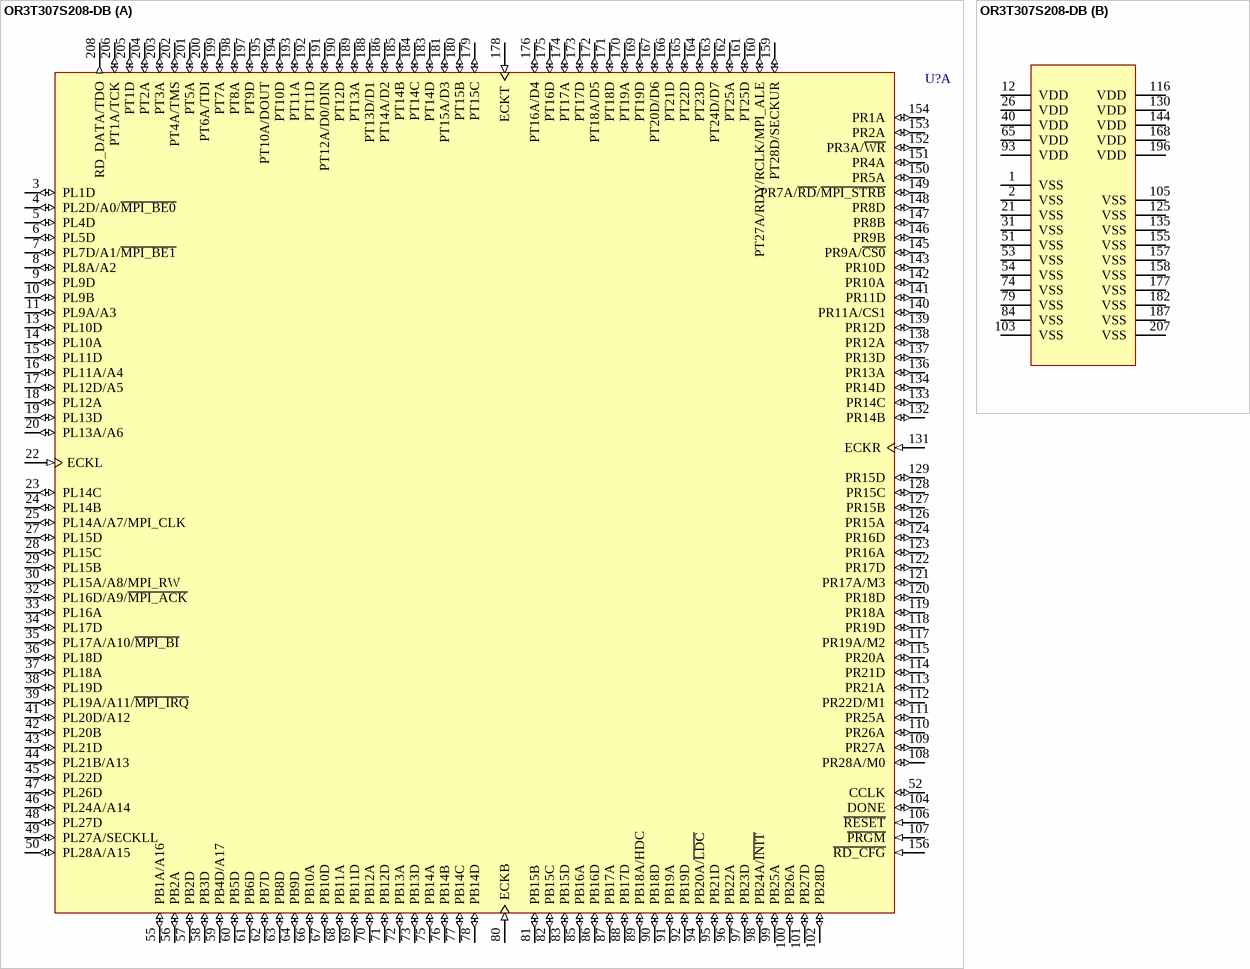
[diagram p81: symbol OR3T307S208-DB]

## OR3T307S208-DB
designator U?
ORCA Series 3T FPGA: 3.3 V, Commercial Grade, 228 I/Os.; Published: 21-May-2003; LatestRevisionDate: 13-Apr-2006; LatestRevisionNote: IPC-7351 Footprint Added.; DatasheetVersion: Dec-2002; PackageVersion: pkg_32, Aug-2005; PackageReference: PQFP208; Publisher: Altium Limited; PackageDescription: 208-Pin Plastic Quad Flat Pack (PQFP208); Code_JEDEC: MO-143-FAI; ComponentLink1Description: Manufacturer Link; ComponentLink1URL: http://www.latticesemi.com/products/fpga/orca/orca3/index.cfm; ComponentLink2Description: Datasheet; ComponentLink2URL: http://www.latticesemi.com/account/_download.cfm?AMID=3974; ComponentLink3Description: Lattice Login; ComponentLink3URL: http://www.latticesemi.com/account/login.cfm
footprint PQFP208_N (Shrink QFP, 208-Leads, Body 28x28mm, Pitch 0.5mm, IPC Medium Density)
footprint PQFP208_L (Shrink QFP, 208-Leads, Body 28x28mm, Pitch 0.5mm, IPC High Density)
footprint PQFP208_M (Shrink QFP, 208-Leads, Body 28x28mm, Pitch 0.5mm, IPC Low Density)
3D model OR3T30-PQFP208 (208-Pin Plastic Quad Flat Pack (PQFP208))
part A pins: 3 PL1D (io), 4 PL2D/A0/~{MPI_BE0} (io), 5 PL4D (io), 6 PL5D (io), 7 PL7D/A1/~{MPI_BE1} (io), 8 PL8A/A2 (io), 9 PL9D (io), 10 PL9B (io), 11 PL9A/A3 (io), 13 PL10D (io), 14 PL10A (io), 15 PL11D (io), 16 PL11A/A4 (io), 17 PL12D/A5 (io), 18 PL12A (io), 19 PL13D (io), 20 PL13A/A6 (io), 22 ECKL (in), 23 PL14C (io), 24 PL14B (io), 25 PL14A/A7/MPI_CLK (io), 27 PL15D (io), 28 PL15C (io), 29 PL15B (io), 30 PL15A/A8/MPI_RW (io), 32 PL16D/A9/~{MPI_ACK} (io), 33 PL16A (io), 34 PL17D (io), 35 PL17A/A10/~{MPI_BI} (io), 36 PL18D (io), 37 PL18A (io), 38 PL19D (io), 39 PL19A/A11/~{MPI_IRQ} (io), 41 PL20D/A12 (io), 42 PL20B (io), 43 PL21D (io), 44 PL21B/A13 (io), 45 PL22D (io), 46 PL24A/A14 (io), 47 PL26D (io), 48 PL27D (io), 49 PL27A/SECKLL (io), 50 PL28A/A15 (io), 52 CCLK (io), 55 PB1A/A16 (io), 56 PB2A (io), 57 PB2D (io), 58 PB3D (io), 59 PB4D/A17 (io), 60 PB5D (io), 61 PB6D (io), 62 PB7D (io), 63 PB8D (io), 64 PB9D (io), 66 PB10A (io), 67 PB10D (io), 68 PB11A (io), 69 PB11D (io), 70 PB12A (io), 71 PB12D (io), 72 PB13A (io), 73 PB13D (io), 75 PB14A (io), 76 PB14B (io), 77 PB14C (io), 78 PB14D (io), 80 ECKB (in), 81 PB15B (io), 82 PB15C (io), 83 PB15D (io), 85 PB16A (io), 86 PB16D (io), 87 PB17A (io), 88 PB17D (io), 89 PB18A/HDC (io), 90 PB18D (io), 91 PB19A (io), 92 PB19D (io), 94 PB20A/~{LDC} (io), 95 PB21D (io), 96 PB22A (io), 97 PB23D (io), 98 PB24A/~{INIT} (io), 99 PB25A (io), 100 PB26A (io), 101 PB27D (io), 102 PB28D (io), 104 DONE (io), 106 ~{RESET} (in), 107 ~{PRGM} (in), 108 PR28A/M0 (io), 109 PR27A (io), 110 PR26A (io), 111 PR25A (io), 112 PR22D/M1 (io), 113 PR21A (io), 114 PR21D (io), 115 PR20A (io), 117 PR19A/M2 (io), 118 PR19D (io), 119 PR18A (io), 120 PR18D (io), 121 PR17A/M3 (io), 122 PR17D (io), 123 PR16A (io), 124 PR16D (io), 126 PR15A (io), 127 PR15B (io), 128 PR15C (io), 129 PR15D (io), 131 ECKR (in), 132 PR14B (io), 133 PR14C (io), 134 PR14D (io), 136 PR13A (io), 137 PR13D (io), 138 PR12A (io), 139 PR12D (io), 140 PR11A/CS1 (io), 141 PR11D (io), 142 PR10A (io), 143 PR10D (io), 145 PR9A/~{CS0} (io), 146 PR9B (io), 147 PR8B (io), 148 PR8D (io), 149 PR7A/~{RD}/~{MPI_STRB} (io), 150 PR5A (io), 151 PR4A (io), 152 PR3A/~{WR} (io), 153 PR2A (io), 154 PR1A (io), 156 ~{RD_CFG} (in), 159 PT28D/SECKUR (io), 160 PT27A/RDY/RCLK/MPI_ALE (io), 161 PT25D (io), 162 PT25A (io), 163 PT24D/D7 (io), 164 PT23D (io), 165 PT22D (io), 166 PT21D (io), 167 PT20D/D6 (io), 169 PT19D (io), 170 PT19A (io), 171 PT18D (io), 172 PT18A/D5 (io), 173 PT17D (io), 174 PT17A (io), 175 PT16D (io), 176 PT16A/D4 (io), 178 ECKT (in), 179 PT15C (io), 180 PT15B (io), 181 PT15A/D3 (io), 183 PT14D (io), 184 PT14C (io), 185 PT14B (io), 186 PT14A/D2 (io), 188 PT13D/D1 (io), 189 PT13A (io), 190 PT12D (io), 191 PT12A/D0/DIN (io), 192 PT11D (io), 193 PT11A (io), 194 PT10D (io), 195 PT10A/DOUT (io), 197 PT9D (io), 198 PT8A (io), 199 PT7A (io), 200 PT6A/TDI (io), 201 PT5A (io), 202 PT4A/TMS (io), 203 PT3A (io), 204 PT2A (io), 205 PT1D (io), 206 PT1A/TCK (io), 208 RD_DATA/TDO (out)
part B pins: 1 VSS (power), 2 VSS (power), 12 VDD (power), 21 VSS (power), 26 VDD (power), 31 VSS (power), 40 VDD (power), 51 VSS (power), 53 VSS (power), 54 VSS (power), 65 VDD (power), 74 VSS (power), 79 VSS (power), 84 VSS (power), 93 VDD (power), 103 VSS (power), 105 VSS (power), 116 VDD (power), 125 VSS (power), 130 VDD (power), 135 VSS (power), 144 VDD (power), 155 VSS (power), 157 VSS (power), 158 VSS (power), 168 VDD (power), 177 VSS (power), 182 VSS (power), 187 VSS (power), 196 VDD (power), 207 VSS (power)

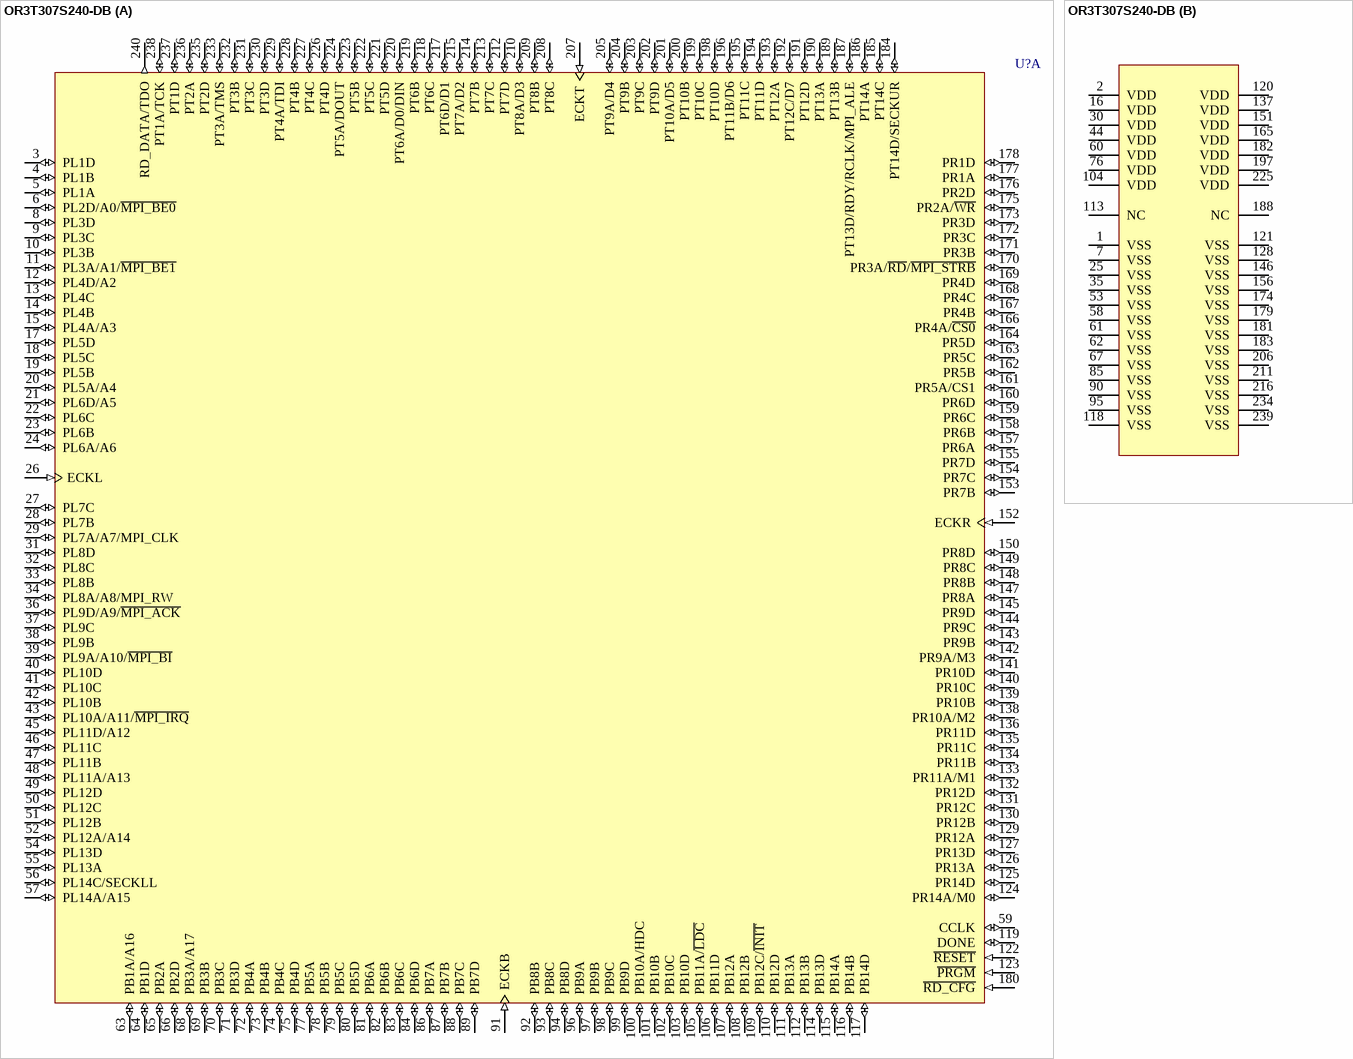
[diagram p82: symbol OR3T307S240-DB]

## OR3T307S240-DB
designator U?
ORCA Series 3T FPGA: 3.3 V, Commercial Grade, 228 I/Os.; Published: 21-May-2003; LatestRevisionDate: 13-Apr-2006; LatestRevisionNote: IPC-7351 Footprint Added.; DatasheetVersion: Dec-2002; PackageVersion: pkg_32, Aug-2005; PackageReference: PQFP240; Publisher: Altium Limited; PackageDescription: 240-Pin Shrink Quad Flat Pack 0.5 mm Pitch; ComponentLink1Description: Manufacturer Link; ComponentLink1URL: http://www.latticesemi.com/products/fpga/orca/orca3/index.cfm; ComponentLink2Description: Datasheet; ComponentLink2URL: http://www.latticesemi.com/account/_download.cfm?AMID=3974; ComponentLink3Description: Lattice Login; ComponentLink3URL: http://www.latticesemi.com/account/login.cfm
footprint PQFP240_N (Shrink QFP, 240-Leads, Body 32x32mm, Pitch 0.5mm, IPC Medium Density)
footprint PQFP240_L (Shrink QFP, 240-Leads, Body 32x32mm, Pitch 0.5mm, IPC High Density)
footprint PQFP240_M (Shrink QFP, 240-Leads, Body 32x32mm, Pitch 0.5mm, IPC Low Density)
3D model OR3T30-PQFP240 (240-Pin Shrink Quad Flat Pack 0.5 mm Pitch)
part A pins: 3 PL1D (io), 4 PL1B (io), 5 PL1A (io), 6 PL2D/A0/~{MPI_BE0} (io), 8 PL3D (io), 9 PL3C (io), 10 PL3B (io), 11 PL3A/A1/~{MPI_BE1} (io), 12 PL4D/A2 (io), 13 PL4C (io), 14 PL4B (io), 15 PL4A/A3 (io), 17 PL5D (io), 18 PL5C (io), 19 PL5B (io), 20 PL5A/A4 (io), 21 PL6D/A5 (io), 22 PL6C (io), 23 PL6B (io), 24 PL6A/A6 (io), 26 ECKL (in), 27 PL7C (io), 28 PL7B (io), 29 PL7A/A7/MPI_CLK (io), 31 PL8D (io), 32 PL8C (io), 33 PL8B (io), 34 PL8A/A8/MPI_RW (io), 36 PL9D/A9/~{MPI_ACK} (io), 37 PL9C (io), 38 PL9B (io), 39 PL9A/A10/~{MPI_BI} (io), 40 PL10D (io), 41 PL10C (io), 42 PL10B (io), 43 PL10A/A11/~{MPI_IRQ} (io), 45 PL11D/A12 (io), 46 PL11C (io), 47 PL11B (io), 48 PL11A/A13 (io), 49 PL12D (io), 50 PL12C (io), 51 PL12B (io), 52 PL12A/A14 (io), 54 PL13D (io), 55 PL13A (io), 56 PL14C/SECKLL (io), 57 PL14A/A15 (io), 59 CCLK (io), 63 PB1A/A16 (io), 64 PB1D (io), 65 PB2A (io), 66 PB2D (io), 68 PB3A/A17 (io), 69 PB3B (io), 70 PB3C (io), 71 PB3D (io), 72 PB4A (io), 73 PB4B (io), 74 PB4C (io), 75 PB4D (io), 77 PB5A (io), 78 PB5B (io), 79 PB5C (io), 80 PB5D (io), 81 PB6A (io), 82 PB6B (io), 83 PB6C (io), 84 PB6D (io), 86 PB7A (io), 87 PB7B (io), 88 PB7C (io), 89 PB7D (io), 91 ECKB (in), 92 PB8B (io), 93 PB8C (io), 94 PB8D (io), 96 PB9A (io), 97 PB9B (io), 98 PB9C (io), 99 PB9D (io), 100 PB10A/HDC (io), 101 PB10B (io), 102 PB10C (io), 103 PB10D (io), 105 PB11A/~{LDC} (io), 106 PB11D (io), 107 PB12A (io), 108 PB12B (io), 109 PB12C/~{INIT} (io), 110 PB12D (io), 111 PB13A (io), 112 PB13B (io), 114 PB13D (io), 115 PB14A (io), 116 PB14B (io), 117 PB14D (io), 119 DONE (io), 122 ~{RESET} (in), 123 ~{PRGM} (in), 124 PR14A/M0 (io), 125 PR14D (io), 126 PR13A (io), 127 PR13D (io), 129 PR12A (io), 130 PR12B (io), 131 PR12C (io), 132 PR12D (io), 133 PR11A/M1 (io), 134 PR11B (io), 135 PR11C (io), 136 PR11D (io), 138 PR10A/M2 (io), 139 PR10B (io), 140 PR10C (io), 141 PR10D (io), 142 PR9A/M3 (io), 143 PR9B (io), 144 PR9C (io), 145 PR9D (io), 147 PR8A (io), 148 PR8B (io), 149 PR8C (io), 150 PR8D (io), 152 ECKR (in), 153 PR7B (io), 154 PR7C (io), 155 PR7D (io), 157 PR6A (io), 158 PR6B (io), 159 PR6C (io), 160 PR6D (io), 161 PR5A/CS1 (io), 162 PR5B (io), 163 PR5C (io), 164 PR5D (io), 166 PR4A/~{CS0} (io), 167 PR4B (io), 168 PR4C (io), 169 PR4D (io), 170 PR3A/~{RD}/~{MPI_STRB} (io), 171 PR3B (io), 172 PR3C (io), 173 PR3D (io), 175 PR2A/~{WR} (io), 176 PR2D (io), 177 PR1A (io), 178 PR1D (io), 180 ~{RD_CFG} (in), 184 PT14D/SECKUR (io), 185 PT14C (io), 186 PT14A (io), 187 PT13D/RDY/RCLK/MPI_ALE (io), 189 PT13B (io), 190 PT13A (io), 191 PT12D (io), 192 PT12C/D7 (io), 193 PT12A (io), 194 PT11D (io), 195 PT11C (io), 196 PT11B/D6 (io), 198 PT10D (io), 199 PT10C (io), 200 PT10B (io), 201 PT10A/D5 (io), 202 PT9D (io), 203 PT9C (io), 204 PT9B (io), 205 PT9A/D4 (io), 207 ECKT (in), 208 PT8C (io), 209 PT8B (io), 210 PT8A/D3 (io), 212 PT7D (io), 213 PT7C (io), 214 PT7B (io), 215 PT7A/D2 (io), 217 PT6D/D1 (io), 218 PT6C (io), 219 PT6B (io), 220 PT6A/D0/DIN (io), 221 PT5D (io), 222 PT5C (io), 223 PT5B (io), 224 PT5A/DOUT (io), 226 PT4D (io), 227 PT4C (io), 228 PT4B (io), 229 PT4A/TDI (io), 230 PT3D (io), 231 PT3C (io), 232 PT3B (io), 233 PT3A/TMS (io), 235 PT2D (io), 236 PT2A (io), 237 PT1D (io), 238 PT1A/TCK (io), 240 RD_DATA/TDO (out)
part B pins: 1 VSS (power), 2 VDD (power), 7 VSS (power), 16 VDD (power), 25 VSS (power), 30 VDD (power), 35 VSS (power), 44 VDD (power), 53 VSS (power), 58 VSS (power), 60 VDD (power), 61 VSS (power), 62 VSS (power), 67 VSS (power), 76 VDD (power), 85 VSS (power), 90 VSS (power), 95 VSS (power), 104 VDD (power), 113 NC, 118 VSS (power), 120 VDD (power), 121 VSS (power), 128 VSS (power), 137 VDD (power), 146 VSS (power), 151 VDD (power), 156 VSS (power), 165 VDD (power), 174 VSS (power), 179 VSS (power), 181 VSS (power), 182 VDD (power), 183 VSS (power), 188 NC, 197 VDD (power), 206 VSS (power), 211 VSS (power), 216 VSS (power), 225 VDD (power), 234 VSS (power), 239 VSS (power)

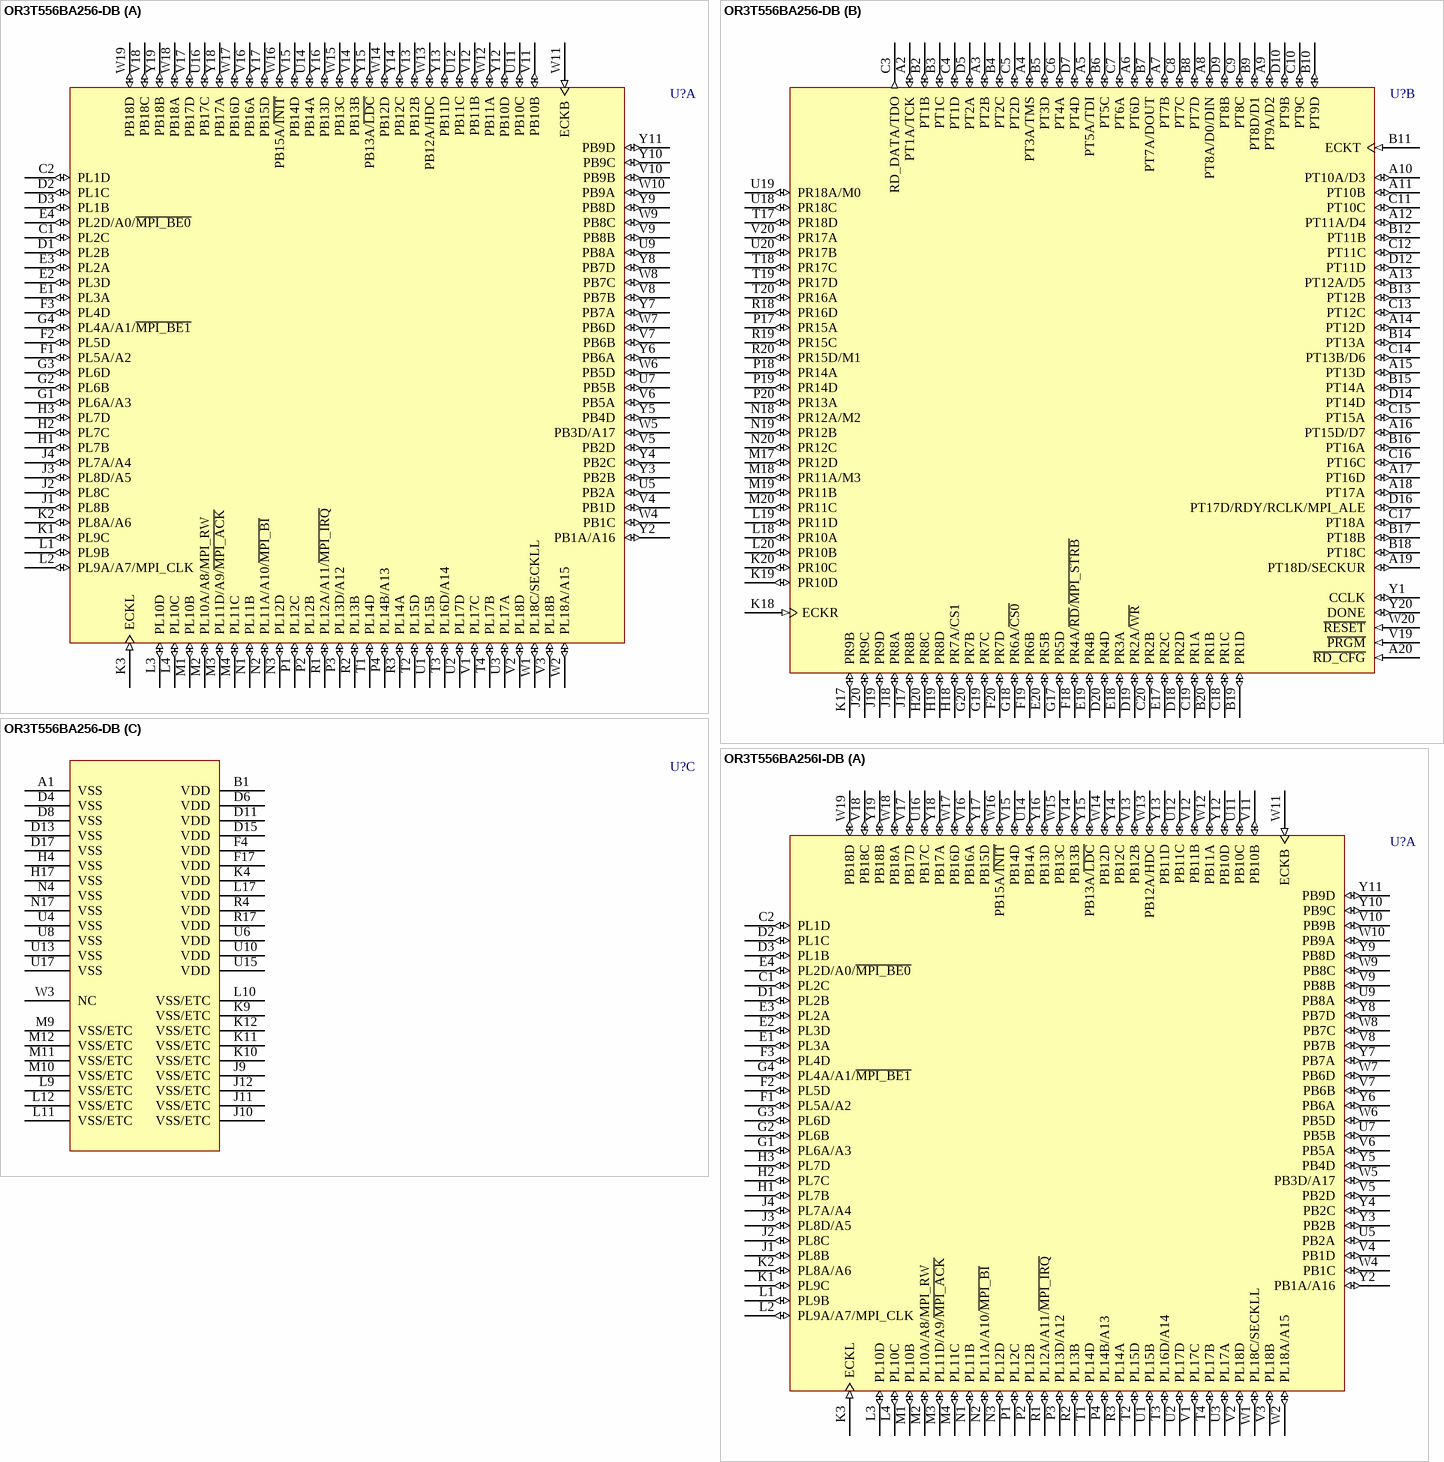
[diagram p83: symbols OR3T556BA256-DB to OR3T556BA256I-DB]

## OR3T556BA256-DB
designator U?
ORCA Series 3T FPGA: 3.3 V, Commercial Grade, 292 I/Os.; PinConnectionRecommendation: Ground array of 'VSS-ETC' pins for enhanced thermal capability or leave unconnected.; Published: 21-May-2003; LatestRevisionDate: 13-Apr-2006; LatestRevisionNote: IPC-7351 Footprint Added.; DatasheetVersion: Dec-2002; PackageVersion: pkg_32, Aug-2005; PackageReference: BGA272; Publisher: Altium Limited; PackageDescription: 272-Ball Ball Grid Array (BGA272); ComponentLink1Description: Manufacturer Link; ComponentLink1URL: http://www.latticesemi.com/products/fpga/orca/orca3/index.cfm; ComponentLink2Description: Datasheet; ComponentLink2URL: http://www.latticesemi.com/account/_download.cfm?AMID=3974; ComponentLink3Description: Lattice Login; ComponentLink3URL: http://www.latticesemi.com/account/login.cfm
footprint BGA272 (BGA, 272-Leads, Body 27x27mm, Pitch 1.27mm)
3D model OR3T55-BGA272 (272-Ball Ball Grid Array (BGA272))
part A pins: C1 PL2C (io), C2 PL1D (io), D1 PL2B (io), D2 PL1C (io), D3 PL1B (io), E1 PL3A (io), E2 PL3D (io), E3 PL2A (io), E4 PL2D/A0/~{MPI_BE0} (io), F1 PL5A/A2 (io), F2 PL5D (io), F3 PL4D (io), G1 PL6A/A3 (io), G2 PL6B (io), G3 PL6D (io), G4 PL4A/A1/~{MPI_BE1} (io), H1 PL7B (io), H2 PL7C (io), H3 PL7D (io), J1 PL8B (io), J2 PL8C (io), J3 PL8D/A5 (io), J4 PL7A/A4 (io), K1 PL9C (io), K2 PL8A/A6 (io), K3 ECKL (in), L1 PL9B (io), L2 PL9A/A7/MPI_CLK (io), L3 PL10D (io), L4 PL10C (io), M1 PL10B (io), M2 PL10A/A8/MPI_RW (io), M3 PL11D/A9/~{MPI_ACK} (io), M4 PL11C (io), N1 PL11B (io), N2 PL11A/A10/~{MPI_BI} (io), N3 PL12D (io), P1 PL12C (io), P2 PL12B (io), P3 PL13D/A12 (io), P4 PL14B/A13 (io), R1 PL12A/A11/~{MPI_IRQ} (io), R2 PL13B (io), R3 PL14A (io), T1 PL14D (io), T2 PL15D (io), T3 PL16D/A14 (io), T4 PL17B (io), U1 PL15B (io), U2 PL17D (io), U3 PL17A (io), U5 PB2A (io), U7 PB5B (io), U9 PB8A (io), U11 PB10C (io), U12 PB11C (io), U14 PB14A (io), U16 PB17C (io), V1 PL17C (io), V2 PL18D (io), V3 PL18B (io), V4 PB1D (io), V5 PB2D (io), V6 PB5A (io), V7 PB6B (io), V8 PB7B (io), V9 PB8B (io), V10 PB9B (io), V11 PB10B (io), V12 PB11B (io), V13 PB12B (io), V14 PB13B (io), V15 PB14D (io), V16 PB16A (io), V17 PB17D (io), V18 PB18C (io), W1 PL18C/SECKLL (io), W2 PL18A/A15 (io), W4 PB1C (io), W5 PB3D/A17 (io), W6 PB5D (io), W7 PB6D (io), W8 PB7C (io), W9 PB8C (io), W10 PB9A (io), W11 ECKB (in), W12 PB11A (io), W13 PB12A/HDC (io), W14 PB12D (io), W15 PB13C (io), W16 PB15A/~{INIT} (io), W17 PB16D (io), W18 PB18A (io), W19 PB18D (io), Y2 PB1A/A16 (io), Y3 PB2B (io), Y4 PB2C (io), Y5 PB4D (io), Y6 PB6A (io), Y7 PB7A (io), Y8 PB7D (io), Y9 PB8D (io), Y10 PB9C (io), Y11 PB9D (io), Y12 PB10D (io), Y13 PB11D (io), Y14 PB12C (io), Y15 PB13A/~{LDC} (io), Y16 PB13D (io), Y17 PB15D (io), Y18 PB17A (io), Y19 PB18B (io)
part B pins: A2 PT1A/TCK (io), A3 PT2B (io), A4 PT3A/TMS (io), A5 PT5A/TDI (io), A6 PT6D (io), A7 PT7B (io), A8 PT8A/D0/DIN (io), A9 PT9A/D2 (io), A10 PT10A/D3 (io), A11 PT10B (io), A12 PT11A/D4 (io), A13 PT12A/D5 (io), A14 PT12D (io), A15 PT13D (io), A16 PT15D/D7 (io), A17 PT16D (io), A18 PT17A (io), A19 PT18D/SECKUR (io), A20 ~{RD_CFG} (in), B2 PT1B (io), B3 PT1C (io), B4 PT2C (io), B5 PT3D (io), B6 PT5C (io), B7 PT7A/DOUT (io), B8 PT7D (io), B9 PT8D/D1 (io), B10 PT9D (io), B11 ECKT (in), B12 PT11B (io), B13 PT12B (io), B14 PT13A (io), B15 PT14A (io), B16 PT16A (io), B17 PT18B (io), B18 PT18C (io), B19 PR1D (io), B20 PR1B (io), C3 RD_DATA/TDO (out), C4 PT1D (io), C5 PT2D (io), C6 PT4A (io), C7 PT6A (io), C8 PT7C (io), C9 PT8C (io), C10 PT9C (io), C11 PT10C (io), C12 PT11C (io), C13 PT12C (io), C14 PT13B/D6 (io), C15 PT15A (io), C16 PT16C (io), C17 PT18A (io), C18 PR1C (io), C19 PR1A (io), C20 PR2B (io), D5 PT2A (io), D7 PT4D (io), D9 PT8B (io), D10 PT9B (io), D12 PT11D (io), D14 PT14D (io), D16 PT17D/RDY/RCLK/MPI_ALE (io), D18 PR2D (io), D19 PR2A/~{WR} (io), D20 PR4D (io), E17 PR2C (io), E18 PR3A (io), E19 PR4B (io), E20 PR5B (io), F18 PR4A/~{RD}/~{MPI_STRB} (io), F19 PR6B (io), F20 PR7D (io), G17 PR5D (io), G18 PR6A/~{CS0} (io), G19 PR7C (io), G20 PR7B (io), H18 PR7A/CS1 (io), H19 PR8D (io), H20 PR8C (io), J17 PR8B (io), J18 PR8A (io), J19 PR9D (io), J20 PR9C (io), K17 PR9B (io), K18 ECKR (in), K19 PR10D (io), K20 PR10C (io), L18 PR10A (io), L19 PR11D (io), L20 PR10B (io), M17 PR12D (io), M18 PR11A/M3 (io), M19 PR11B (io), M20 PR11C (io), N18 PR12A/M2 (io), N19 PR12B (io), N20 PR12C (io), P17 PR15A (io), P18 PR14A (io), P19 PR14D (io), P20 PR13A (io), R18 PR16D (io), R19 PR15C (io), R20 PR15D/M1 (io), T17 PR18D (io), T18 PR17C (io), T19 PR17D (io), T20 PR16A (io), U18 PR18C (io), U19 PR18A/M0 (io), U20 PR17B (io), V19 ~{PRGM} (in), V20 PR17A (io), W20 ~{RESET} (in), Y1 CCLK (io), Y20 DONE (io)
part C pins: A1 VSS (power), B1 VDD (power), D4 VSS (power), D6 VDD (power), D8 VSS (power), D11 VDD (power), D13 VSS (power), D15 VDD (power), D17 VSS (power), F4 VDD (power), F17 VDD (power), H4 VSS (power), H17 VSS (power), J9 VSS/ETC (power), J10 VSS/ETC (power), J11 VSS/ETC (power), J12 VSS/ETC (power), K4 VDD (power), K9 VSS/ETC (power), K10 VSS/ETC (power), K11 VSS/ETC (power), K12 VSS/ETC (power), L9 VSS/ETC (power), L10 VSS/ETC (power), L11 VSS/ETC (power), L12 VSS/ETC (power), L17 VDD (power), M9 VSS/ETC (power), M10 VSS/ETC (power), M11 VSS/ETC (power), M12 VSS/ETC (power), N4 VSS (power), N17 VSS (power), R4 VDD (power), R17 VDD (power), U4 VSS (power), U6 VDD (power), U8 VSS (power), U10 VDD (power), U13 VSS (power), U15 VDD (power), U17 VSS (power), W3 NC

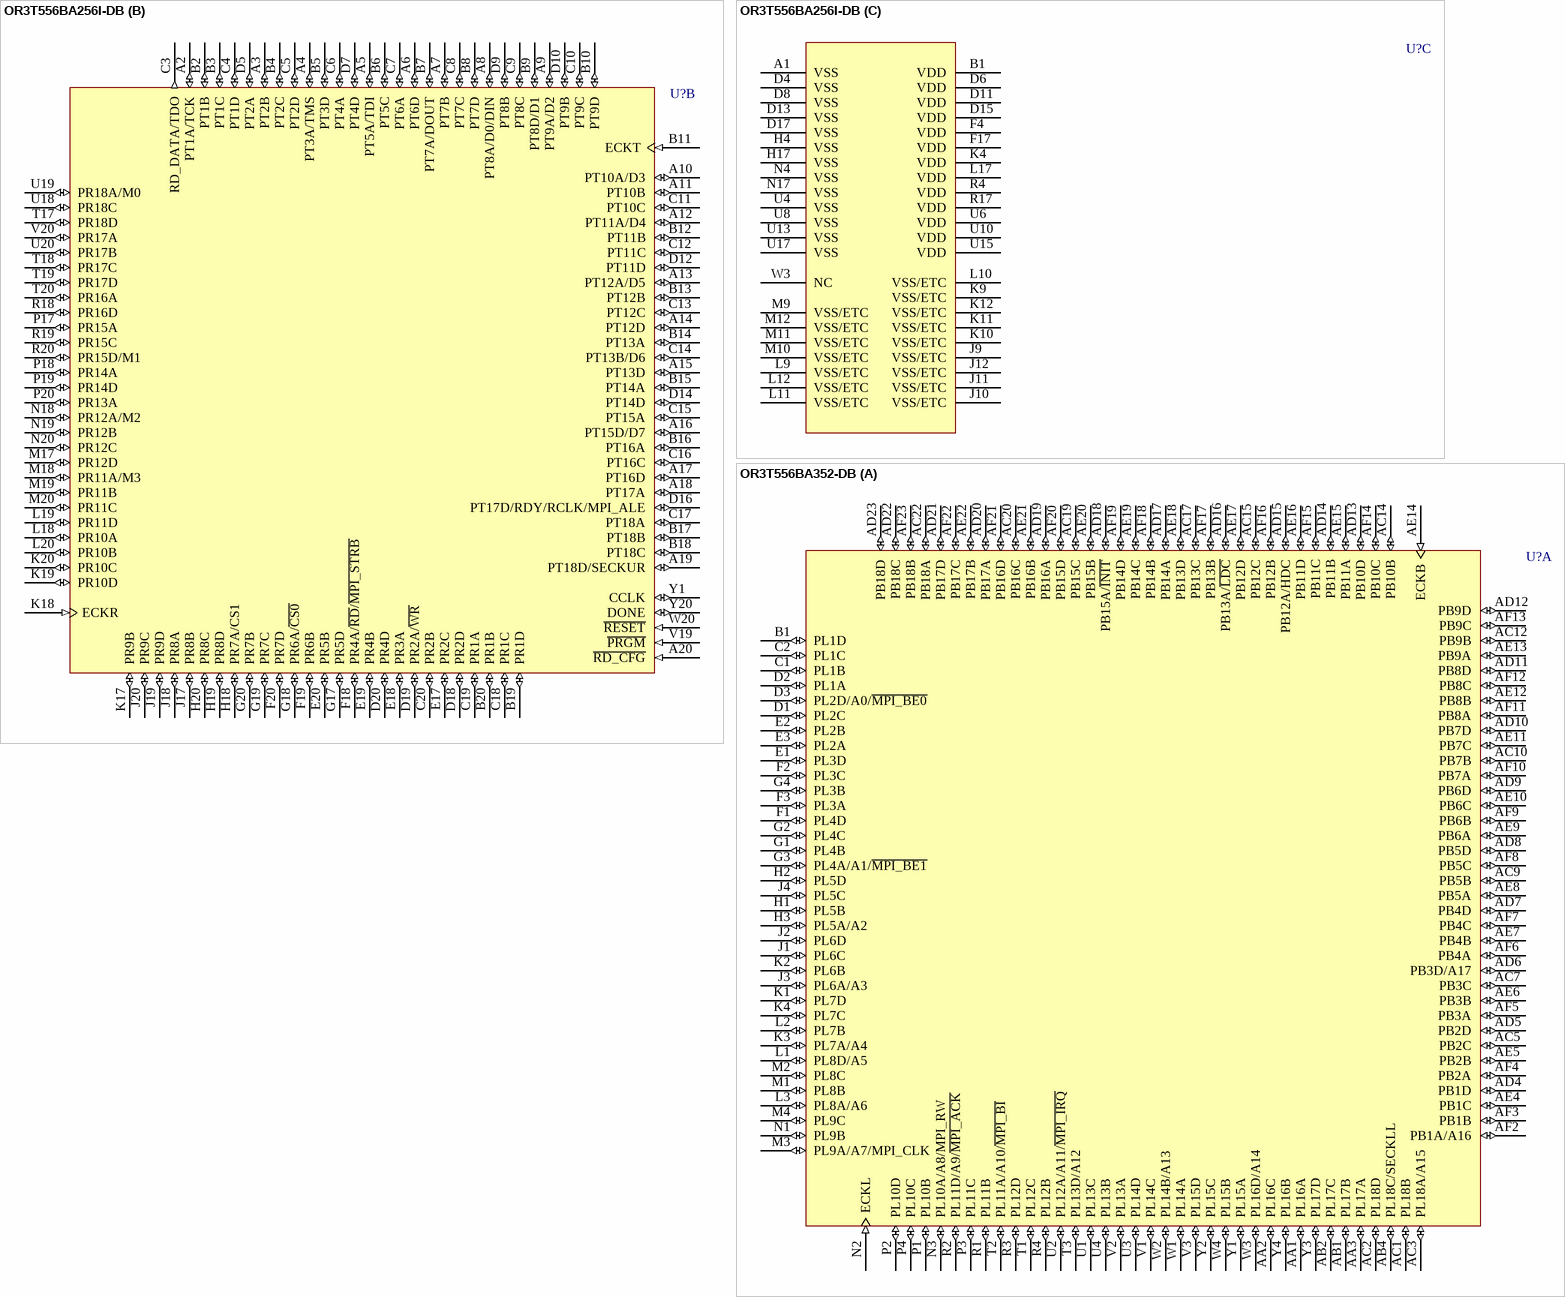
[diagram p84: symbols OR3T556BA256I-DB to OR3T556BA352-DB]

## OR3T556BA256I-DB
designator U?
ORCA Series 3T FPGA: 3.3 V, Industrial Grade, 292 I/Os.; PinConnectionRecommendation: Ground array of 'VSS-ETC' pins for enhanced thermal capability or leave unconnected.; Published: 21-May-2003; LatestRevisionDate: 13-Apr-2006; LatestRevisionNote: IPC-7351 Footprint Added.; DatasheetVersion: Dec-2002; PackageVersion: pkg_32, Aug-2005; PackageReference: BGA272; Publisher: Altium Limited; PackageDescription: 272-Ball Ball Grid Array (BGA272); ComponentLink1Description: Manufacturer Link; ComponentLink1URL: http://www.latticesemi.com/products/fpga/orca/orca3/index.cfm; ComponentLink2Description: Datasheet; ComponentLink2URL: http://www.latticesemi.com/account/_download.cfm?AMID=3974; ComponentLink3Description: Lattice Login; ComponentLink3URL: http://www.latticesemi.com/account/login.cfm
footprint BGA272 (BGA, 272-Leads, Body 27x27mm, Pitch 1.27mm)
3D model OR3T55-BGA272 (272-Ball Ball Grid Array (BGA272))
part A pins: C1 PL2C (io), C2 PL1D (io), D1 PL2B (io), D2 PL1C (io), D3 PL1B (io), E1 PL3A (io), E2 PL3D (io), E3 PL2A (io), E4 PL2D/A0/~{MPI_BE0} (io), F1 PL5A/A2 (io), F2 PL5D (io), F3 PL4D (io), G1 PL6A/A3 (io), G2 PL6B (io), G3 PL6D (io), G4 PL4A/A1/~{MPI_BE1} (io), H1 PL7B (io), H2 PL7C (io), H3 PL7D (io), J1 PL8B (io), J2 PL8C (io), J3 PL8D/A5 (io), J4 PL7A/A4 (io), K1 PL9C (io), K2 PL8A/A6 (io), K3 ECKL (in), L1 PL9B (io), L2 PL9A/A7/MPI_CLK (io), L3 PL10D (io), L4 PL10C (io), M1 PL10B (io), M2 PL10A/A8/MPI_RW (io), M3 PL11D/A9/~{MPI_ACK} (io), M4 PL11C (io), N1 PL11B (io), N2 PL11A/A10/~{MPI_BI} (io), N3 PL12D (io), P1 PL12C (io), P2 PL12B (io), P3 PL13D/A12 (io), P4 PL14B/A13 (io), R1 PL12A/A11/~{MPI_IRQ} (io), R2 PL13B (io), R3 PL14A (io), T1 PL14D (io), T2 PL15D (io), T3 PL16D/A14 (io), T4 PL17B (io), U1 PL15B (io), U2 PL17D (io), U3 PL17A (io), U5 PB2A (io), U7 PB5B (io), U9 PB8A (io), U11 PB10C (io), U12 PB11C (io), U14 PB14A (io), U16 PB17C (io), V1 PL17C (io), V2 PL18D (io), V3 PL18B (io), V4 PB1D (io), V5 PB2D (io), V6 PB5A (io), V7 PB6B (io), V8 PB7B (io), V9 PB8B (io), V10 PB9B (io), V11 PB10B (io), V12 PB11B (io), V13 PB12B (io), V14 PB13B (io), V15 PB14D (io), V16 PB16A (io), V17 PB17D (io), V18 PB18C (io), W1 PL18C/SECKLL (io), W2 PL18A/A15 (io), W4 PB1C (io), W5 PB3D/A17 (io), W6 PB5D (io), W7 PB6D (io), W8 PB7C (io), W9 PB8C (io), W10 PB9A (io), W11 ECKB (in), W12 PB11A (io), W13 PB12A/HDC (io), W14 PB12D (io), W15 PB13C (io), W16 PB15A/~{INIT} (io), W17 PB16D (io), W18 PB18A (io), W19 PB18D (io), Y2 PB1A/A16 (io), Y3 PB2B (io), Y4 PB2C (io), Y5 PB4D (io), Y6 PB6A (io), Y7 PB7A (io), Y8 PB7D (io), Y9 PB8D (io), Y10 PB9C (io), Y11 PB9D (io), Y12 PB10D (io), Y13 PB11D (io), Y14 PB12C (io), Y15 PB13A/~{LDC} (io), Y16 PB13D (io), Y17 PB15D (io), Y18 PB17A (io), Y19 PB18B (io)
part B pins: A2 PT1A/TCK (io), A3 PT2B (io), A4 PT3A/TMS (io), A5 PT5A/TDI (io), A6 PT6D (io), A7 PT7B (io), A8 PT8A/D0/DIN (io), A9 PT9A/D2 (io), A10 PT10A/D3 (io), A11 PT10B (io), A12 PT11A/D4 (io), A13 PT12A/D5 (io), A14 PT12D (io), A15 PT13D (io), A16 PT15D/D7 (io), A17 PT16D (io), A18 PT17A (io), A19 PT18D/SECKUR (io), A20 ~{RD_CFG} (in), B2 PT1B (io), B3 PT1C (io), B4 PT2C (io), B5 PT3D (io), B6 PT5C (io), B7 PT7A/DOUT (io), B8 PT7D (io), B9 PT8D/D1 (io), B10 PT9D (io), B11 ECKT (in), B12 PT11B (io), B13 PT12B (io), B14 PT13A (io), B15 PT14A (io), B16 PT16A (io), B17 PT18B (io), B18 PT18C (io), B19 PR1D (io), B20 PR1B (io), C3 RD_DATA/TDO (out), C4 PT1D (io), C5 PT2D (io), C6 PT4A (io), C7 PT6A (io), C8 PT7C (io), C9 PT8C (io), C10 PT9C (io), C11 PT10C (io), C12 PT11C (io), C13 PT12C (io), C14 PT13B/D6 (io), C15 PT15A (io), C16 PT16C (io), C17 PT18A (io), C18 PR1C (io), C19 PR1A (io), C20 PR2B (io), D5 PT2A (io), D7 PT4D (io), D9 PT8B (io), D10 PT9B (io), D12 PT11D (io), D14 PT14D (io), D16 PT17D/RDY/RCLK/MPI_ALE (io), D18 PR2D (io), D19 PR2A/~{WR} (io), D20 PR4D (io), E17 PR2C (io), E18 PR3A (io), E19 PR4B (io), E20 PR5B (io), F18 PR4A/~{RD}/~{MPI_STRB} (io), F19 PR6B (io), F20 PR7D (io), G17 PR5D (io), G18 PR6A/~{CS0} (io), G19 PR7C (io), G20 PR7B (io), H18 PR7A/CS1 (io), H19 PR8D (io), H20 PR8C (io), J17 PR8B (io), J18 PR8A (io), J19 PR9D (io), J20 PR9C (io), K17 PR9B (io), K18 ECKR (in), K19 PR10D (io), K20 PR10C (io), L18 PR10A (io), L19 PR11D (io), L20 PR10B (io), M17 PR12D (io), M18 PR11A/M3 (io), M19 PR11B (io), M20 PR11C (io), N18 PR12A/M2 (io), N19 PR12B (io), N20 PR12C (io), P17 PR15A (io), P18 PR14A (io), P19 PR14D (io), P20 PR13A (io), R18 PR16D (io), R19 PR15C (io), R20 PR15D/M1 (io), T17 PR18D (io), T18 PR17C (io), T19 PR17D (io), T20 PR16A (io), U18 PR18C (io), U19 PR18A/M0 (io), U20 PR17B (io), V19 ~{PRGM} (in), V20 PR17A (io), W20 ~{RESET} (in), Y1 CCLK (io), Y20 DONE (io)
part C pins: A1 VSS (power), B1 VDD (power), D4 VSS (power), D6 VDD (power), D8 VSS (power), D11 VDD (power), D13 VSS (power), D15 VDD (power), D17 VSS (power), F4 VDD (power), F17 VDD (power), H4 VSS (power), H17 VSS (power), J9 VSS/ETC (power), J10 VSS/ETC (power), J11 VSS/ETC (power), J12 VSS/ETC (power), K4 VDD (power), K9 VSS/ETC (power), K10 VSS/ETC (power), K11 VSS/ETC (power), K12 VSS/ETC (power), L9 VSS/ETC (power), L10 VSS/ETC (power), L11 VSS/ETC (power), L12 VSS/ETC (power), L17 VDD (power), M9 VSS/ETC (power), M10 VSS/ETC (power), M11 VSS/ETC (power), M12 VSS/ETC (power), N4 VSS (power), N17 VSS (power), R4 VDD (power), R17 VDD (power), U4 VSS (power), U6 VDD (power), U8 VSS (power), U10 VDD (power), U13 VSS (power), U15 VDD (power), U17 VSS (power), W3 NC

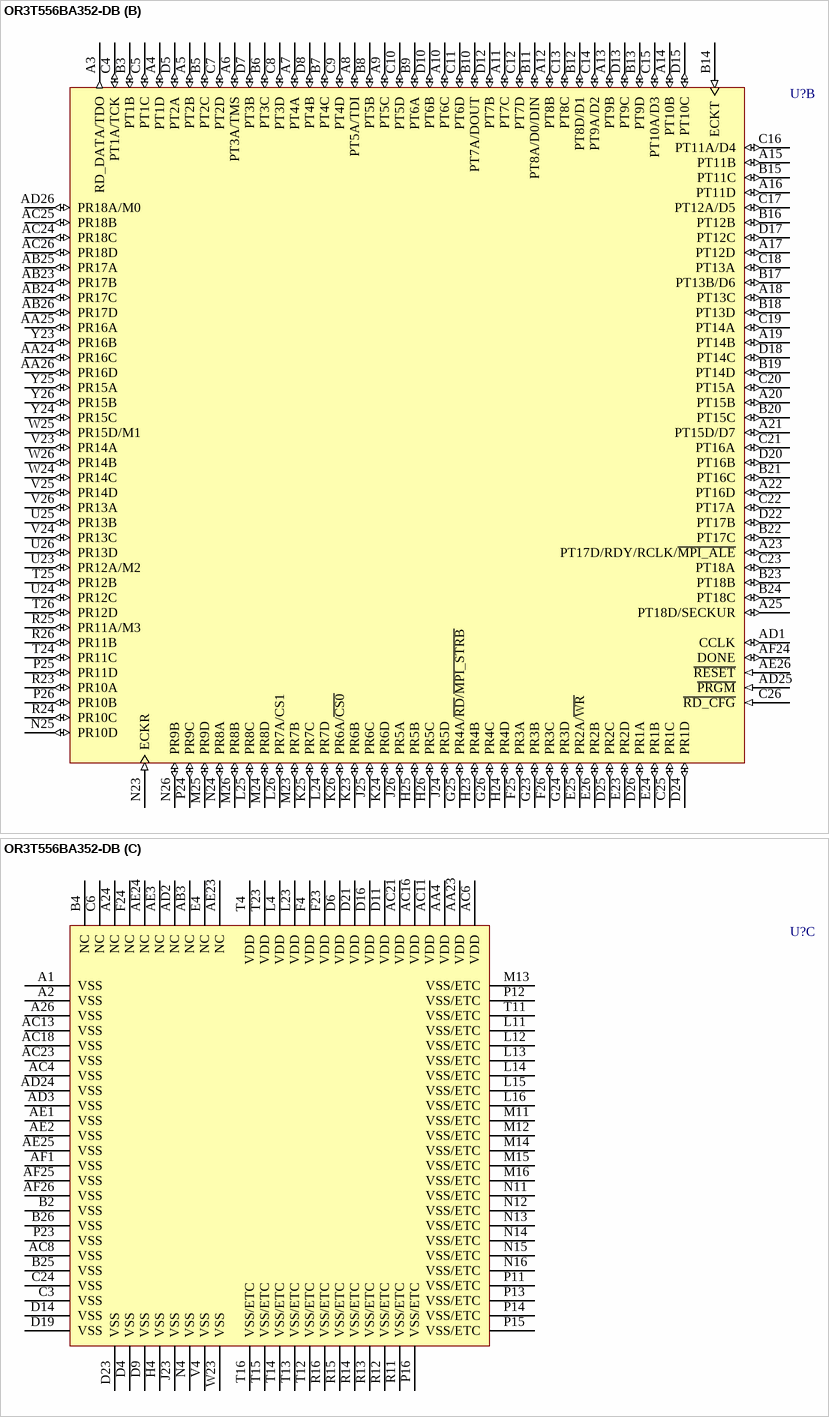
[diagram p85: symbol OR3T556BA352-DB]